# Altium schematic symbol library Embedded - Microcontrollers.SchLib: 219 symbols (part 10 of 15)
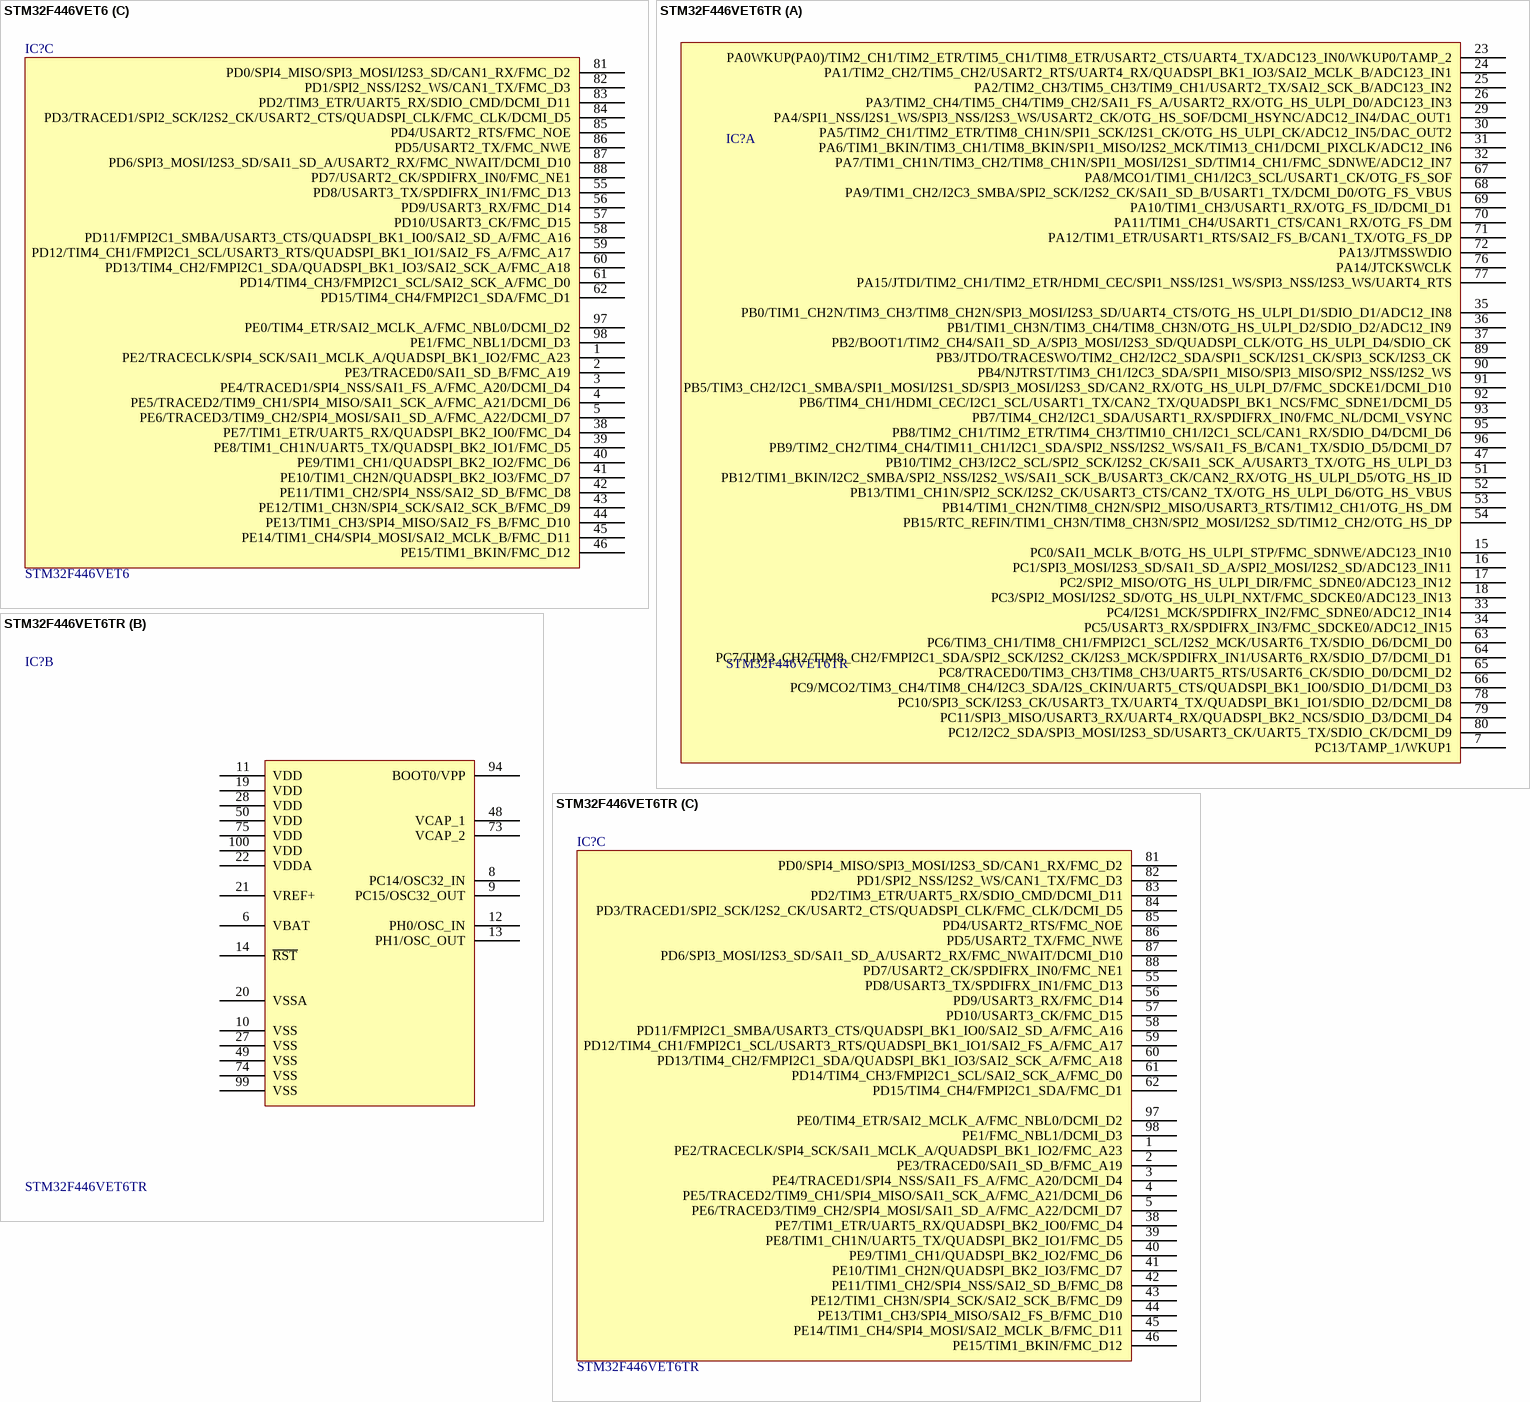
[diagram p110: symbols STM32F446VET6 to STM32F446VET6TR]

## STM32F446VET6TR
designator IC?
IC MCU 32BIT 512KB FLASH 100LQFP; Manufacturer: STMicroelectronics; Connectivity: CANbus, EBI/EMI, I²C, IrDA, LINbus, SAI, SD, SPDIF-Rx, SPI, UART/USART, USB, USB OTG; Core Processor: ARM® Cortex®-M4; Core Size: 32-Bit; Data Converters: A/D 16x12b; D/A 2x12b; Number of I/O: 81; Oscillator Type: Internal; Peripherals: Brown-out Detect/Reset, DMA, I²S, LVD, POR, PWM, WDT; Program Memory Size: 512KB (512K x 8); RAM Size: 128K x 8; Speed: 180MHz; Voltage - Supply (Vcc/Vdd): 1.7V ~ 3.6V; Part Number: STM32F446VET6TR; ComponentLink1Description: Datasheet; ComponentLink1URL: http://www.st.com/content/ccc/resource/technical/document/datasheet/65/cb/75/50/53/d6/48/24/DM00141306.pdf/files/DM00141306.pdf/jcr:content/translations/en.DM00141306.pdf; ComponentLink2Description: DigiKey Link; ComponentLink2URL: //digikey.com/product-detail/en/stmicroelectronics/STM32F446VET6TR/497-19359-2-ND/8257818; Device Package: 100-LQFP; LastUpdated: 12/6/2019 12:44:48 AM; Lifecycle Status: 0; Minimum Order: 1; Mounting Type: Surface Mount; Operating Temperature: -40°C ~ 85°C (TA); Package / Case: 100-LQFP; Packaging: TapeAndReel; PartId: 125; Part Status: Active; Price: 4.65; Program Memory Type: FLASH; Series: STM32F4; Supplier 1: DigiKey; Supplier Part Number 1: 497-19359-2-ND; Supplier Device Package: 100-LQFP (14x14)
footprint ST LQFP-100 14X14MM
part A pins: 7 PC13/TAMP_1/WKUP1, 15 PC0/SAI1_MCLK_B/OTG_HS_ULPI_STP/FMC_SDNWE/ADC123_IN10, 16 PC1/SPI3_MOSI/I2S3_SD/SAI1_SD_A/SPI2_MOSI/I2S2_SD/ADC123_IN11, 17 PC2/SPI2_MISO/OTG_HS_ULPI_DIR/FMC_SDNE0/ADC123_IN12, 18 PC3/SPI2_MOSI/I2S2_SD/OTG_HS_ULPI_NXT/FMC_SDCKE0/ADC123_IN13, 23 PA0WKUP(PA0)/TIM2_CH1/TIM2_ETR/TIM5_CH1/TIM8_ETR/USART2_CTS/UART4_TX/ADC123_IN0/WKUP0/TAMP_2, 24 PA1/TIM2_CH2/TIM5_CH2/USART2_RTS/UART4_RX/QUADSPI_BK1_IO3/SAI2_MCLK_B/ADC123_IN1, 25 PA2/TIM2_CH3/TIM5_CH3/TIM9_CH1/USART2_TX/SAI2_SCK_B/ADC123_IN2, 26 PA3/TIM2_CH4/TIM5_CH4/TIM9_CH2/SAI1_FS_A/USART2_RX/OTG_HS_ULPI_D0/ADC123_IN3, 29 PA4/SPI1_NSS/I2S1_WS/SPI3_NSS/I2S3_WS/USART2_CK/OTG_HS_SOF/DCMI_HSYNC/ADC12_IN4/DAC_OUT1, 30 PA5/TIM2_CH1/TIM2_ETR/TIM8_CH1N/SPI1_SCK/I2S1_CK/OTG_HS_ULPI_CK/ADC12_IN5/DAC_OUT2, 31 PA6/TIM1_BKIN/TIM3_CH1/TIM8_BKIN/SPI1_MISO/I2S2_MCK/TIM13_CH1/DCMI_PIXCLK/ADC12_IN6, 32 PA7/TIM1_CH1N/TIM3_CH2/TIM8_CH1N/SPI1_MOSI/I2S1_SD/TIM14_CH1/FMC_SDNWE/ADC12_IN7, 33 PC4/I2S1_MCK/SPDIFRX_IN2/FMC_SDNE0/ADC12_IN14, 34 PC5/USART3_RX/SPDIFRX_IN3/FMC_SDCKE0/ADC12_IN15, 35 PB0/TIM1_CH2N/TIM3_CH3/TIM8_CH2N/SPI3_MOSI/I2S3_SD/UART4_CTS/OTG_HS_ULPI_D1/SDIO_D1/ADC12_IN8, 36 PB1/TIM1_CH3N/TIM3_CH4/TIM8_CH3N/OTG_HS_ULPI_D2/SDIO_D2/ADC12_IN9, 37 PB2/BOOT1/TIM2_CH4/SAI1_SD_A/SPI3_MOSI/I2S3_SD/QUADSPI_CLK/OTG_HS_ULPI_D4/SDIO_CK, 47 PB10/TIM2_CH3/I2C2_SCL/SPI2_SCK/I2S2_CK/SAI1_SCK_A/USART3_TX/OTG_HS_ULPI_D3, 51 PB12/TIM1_BKIN/I2C2_SMBA/SPI2_NSS/I2S2_WS/SAI1_SCK_B/USART3_CK/CAN2_RX/OTG_HS_ULPI_D5/OTG_HS_ID, 52 PB13/TIM1_CH1N/SPI2_SCK/I2S2_CK/USART3_CTS/CAN2_TX/OTG_HS_ULPI_D6/OTG_HS_VBUS, 53 PB14/TIM1_CH2N/TIM8_CH2N/SPI2_MISO/USART3_RTS/TIM12_CH1/OTG_HS_DM, 54 PB15/RTC_REFIN/TIM1_CH3N/TIM8_CH3N/SPI2_MOSI/I2S2_SD/TIM12_CH2/OTG_HS_DP, 63 PC6/TIM3_CH1/TIM8_CH1/FMPI2C1_SCL/I2S2_MCK/USART6_TX/SDIO_D6/DCMI_D0, 64 PC7/TIM3_CH2/TIM8_CH2/FMPI2C1_SDA/SPI2_SCK/I2S2_CK/I2S3_MCK/SPDIFRX_IN1/USART6_RX/SDIO_D7/DCMI_D1, 65 PC8/TRACED0/TIM3_CH3/TIM8_CH3/UART5_RTS/USART6_CK/SDIO_D0/DCMI_D2, 66 PC9/MCO2/TIM3_CH4/TIM8_CH4/I2C3_SDA/I2S_CKIN/UART5_CTS/QUADSPI_BK1_IO0/SDIO_D1/DCMI_D3, 67 PA8/MCO1/TIM1_CH1/I2C3_SCL/USART1_CK/OTG_FS_SOF, 68 PA9/TIM1_CH2/I2C3_SMBA/SPI2_SCK/I2S2_CK/SAI1_SD_B/USART1_TX/DCMI_D0/OTG_FS_VBUS, 69 PA10/TIM1_CH3/USART1_RX/OTG_FS_ID/DCMI_D1, 70 PA11/TIM1_CH4/USART1_CTS/CAN1_RX/OTG_FS_DM, 71 PA12/TIM1_ETR/USART1_RTS/SAI2_FS_B/CAN1_TX/OTG_FS_DP, 72 PA13/JTMSSWDIO, 76 PA14/JTCKSWCLK, 77 PA15/JTDI/TIM2_CH1/TIM2_ETR/HDMI_CEC/SPI1_NSS/I2S1_WS/SPI3_NSS/I2S3_WS/UART4_RTS, 78 PC10/SPI3_SCK/I2S3_CK/USART3_TX/UART4_TX/QUADSPI_BK1_IO1/SDIO_D2/DCMI_D8, 79 PC11/SPI3_MISO/USART3_RX/UART4_RX/QUADSPI_BK2_NCS/SDIO_D3/DCMI_D4, 80 PC12/I2C2_SDA/SPI3_MOSI/I2S3_SD/USART3_CK/UART5_TX/SDIO_CK/DCMI_D9, 89 PB3/JTDO/TRACESWO/TIM2_CH2/I2C2_SDA/SPI1_SCK/I2S1_CK/SPI3_SCK/I2S3_CK, 90 PB4/NJTRST/TIM3_CH1/I2C3_SDA/SPI1_MISO/SPI3_MISO/SPI2_NSS/I2S2_WS, 91 PB5/TIM3_CH2/I2C1_SMBA/SPI1_MOSI/I2S1_SD/SPI3_MOSI/I2S3_SD/CAN2_RX/OTG_HS_ULPI_D7/FMC_SDCKE1/DCMI_D10, 92 PB6/TIM4_CH1/HDMI_CEC/I2C1_SCL/USART1_TX/CAN2_TX/QUADSPI_BK1_NCS/FMC_SDNE1/DCMI_D5, 93 PB7/TIM4_CH2/I2C1_SDA/USART1_RX/SPDIFRX_IN0/FMC_NL/DCMI_VSYNC, 95 PB8/TIM2_CH1/TIM2_ETR/TIM4_CH3/TIM10_CH1/I2C1_SCL/CAN1_RX/SDIO_D4/DCMI_D6, 96 PB9/TIM2_CH2/TIM4_CH4/TIM11_CH1/I2C1_SDA/SPI2_NSS/I2S2_WS/SAI1_FS_B/CAN1_TX/SDIO_D5/DCMI_D7
part B pins: 6 VBAT, 8 PC14/OSC32_IN, 9 PC15/OSC32_OUT, 10 VSS, 11 VDD, 12 PH0/OSC_IN, 13 PH1/OSC_OUT, 14 ~{RST}, 19 VDD, 20 VSSA, 21 VREF+, 22 VDDA, 27 VSS, 28 VDD, 48 VCAP_1, 49 VSS, 50 VDD, 73 VCAP_2, 74 VSS, 75 VDD, 94 BOOT0/VPP, 99 VSS, 100 VDD
part C pins: 1 PE2/TRACECLK/SPI4_SCK/SAI1_MCLK_A/QUADSPI_BK1_IO2/FMC_A23, 2 PE3/TRACED0/SAI1_SD_B/FMC_A19, 3 PE4/TRACED1/SPI4_NSS/SAI1_FS_A/FMC_A20/DCMI_D4, 4 PE5/TRACED2/TIM9_CH1/SPI4_MISO/SAI1_SCK_A/FMC_A21/DCMI_D6, 5 PE6/TRACED3/TIM9_CH2/SPI4_MOSI/SAI1_SD_A/FMC_A22/DCMI_D7, 38 PE7/TIM1_ETR/UART5_RX/QUADSPI_BK2_IO0/FMC_D4, 39 PE8/TIM1_CH1N/UART5_TX/QUADSPI_BK2_IO1/FMC_D5, 40 PE9/TIM1_CH1/QUADSPI_BK2_IO2/FMC_D6, 41 PE10/TIM1_CH2N/QUADSPI_BK2_IO3/FMC_D7, 42 PE11/TIM1_CH2/SPI4_NSS/SAI2_SD_B/FMC_D8, 43 PE12/TIM1_CH3N/SPI4_SCK/SAI2_SCK_B/FMC_D9, 44 PE13/TIM1_CH3/SPI4_MISO/SAI2_FS_B/FMC_D10, 45 PE14/TIM1_CH4/SPI4_MOSI/SAI2_MCLK_B/FMC_D11, 46 PE15/TIM1_BKIN/FMC_D12, 55 PD8/USART3_TX/SPDIFRX_IN1/FMC_D13, 56 PD9/USART3_RX/FMC_D14, 57 PD10/USART3_CK/FMC_D15, 58 PD11/FMPI2C1_SMBA/USART3_CTS/QUADSPI_BK1_IO0/SAI2_SD_A/FMC_A16, 59 PD12/TIM4_CH1/FMPI2C1_SCL/USART3_RTS/QUADSPI_BK1_IO1/SAI2_FS_A/FMC_A17, 60 PD13/TIM4_CH2/FMPI2C1_SDA/QUADSPI_BK1_IO3/SAI2_SCK_A/FMC_A18, 61 PD14/TIM4_CH3/FMPI2C1_SCL/SAI2_SCK_A/FMC_D0, 62 PD15/TIM4_CH4/FMPI2C1_SDA/FMC_D1, 81 PD0/SPI4_MISO/SPI3_MOSI/I2S3_SD/CAN1_RX/FMC_D2, 82 PD1/SPI2_NSS/I2S2_WS/CAN1_TX/FMC_D3, 83 PD2/TIM3_ETR/UART5_RX/SDIO_CMD/DCMI_D11, 84 PD3/TRACED1/SPI2_SCK/I2S2_CK/USART2_CTS/QUADSPI_CLK/FMC_CLK/DCMI_D5, 85 PD4/USART2_RTS/FMC_NOE, 86 PD5/USART2_TX/FMC_NWE, 87 PD6/SPI3_MOSI/I2S3_SD/SAI1_SD_A/USART2_RX/FMC_NWAIT/DCMI_D10, 88 PD7/USART2_CK/SPDIFRX_IN0/FMC_NE1, 97 PE0/TIM4_ETR/SAI2_MCLK_A/FMC_NBL0/DCMI_D2, 98 PE1/FMC_NBL1/DCMI_D3

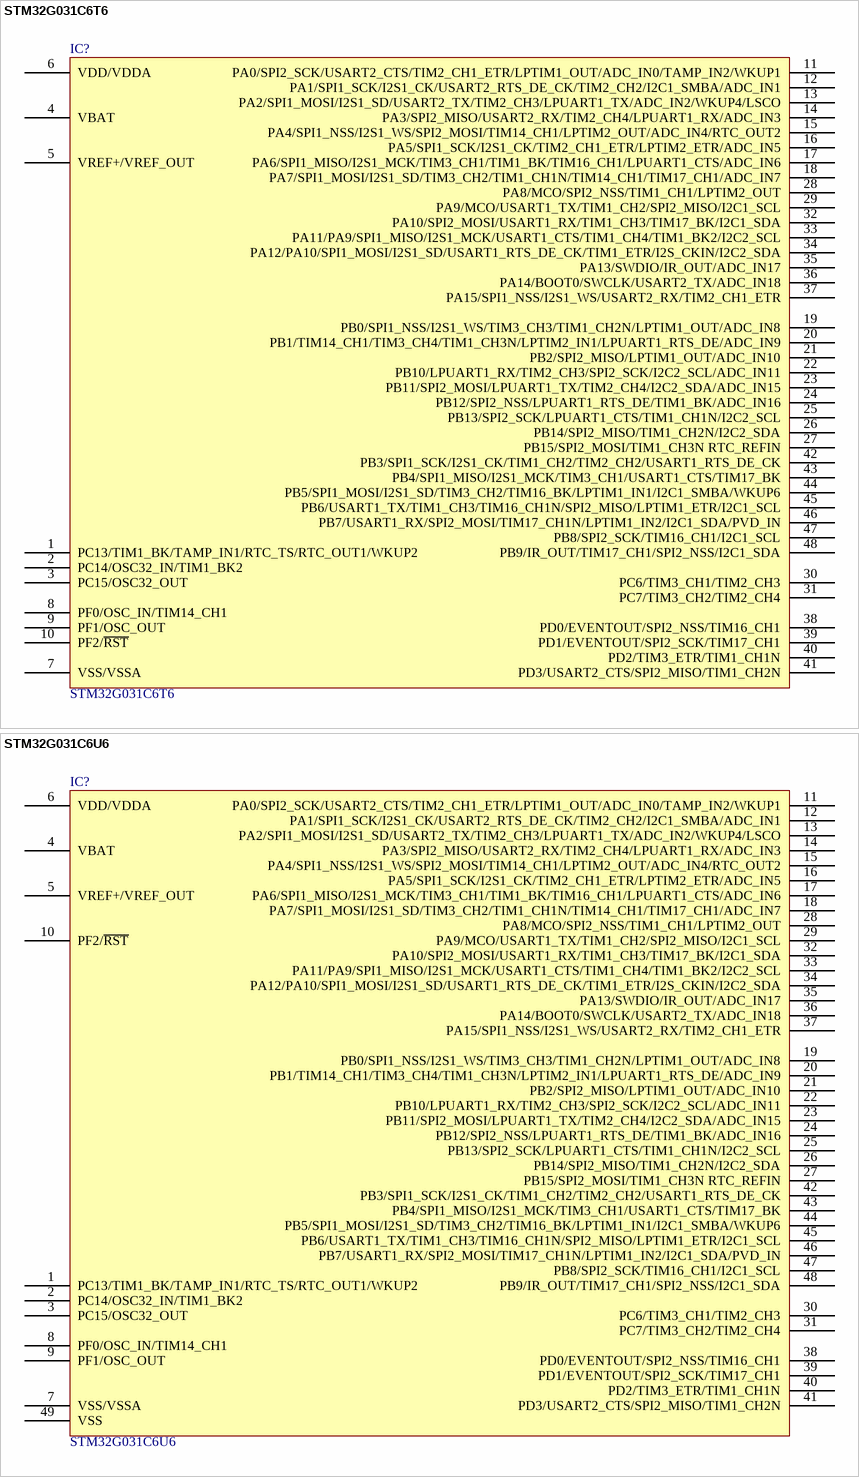
[diagram p66: symbols STM32G031C6T6 to STM32G031C6U6]

## STM32G031C6T6
designator IC?
MAINSTREAM ARM CORTEX-M0+ MCU WI; Manufacturer: STMicroelectronics; Connectivity: I²C, IrDA, LINbus, SPI, UART/USART; Core Processor: ARM® Cortex®-M0+; Core Size: 32-Bit; Data Converters: A/D 19x12b; Number of I/O: 44; Oscillator Type: Internal; Peripherals: Brown-out Detect/Reset, DMA, I²S, POR, PWM, WDT; Program Memory Size: 32KB (32K x 8); Program Memory Type: FLASH; RAM Size: 8K x 8; Speed: 64MHz; Voltage - Supply (Vcc/Vdd): 1.7V ~ 3.6V; Part Number: STM32G031C6T6; ComponentLink1Description: Datasheet; ComponentLink1URL: https://www.st.com/resource/en/datasheet/stm32g031c6.pdf; ComponentLink2Description: DigiKey Link; ComponentLink2URL: http://digikey.com/product-detail/en/stmicroelectronics/STM32G031C6T6/497-19555-ND/10300268; LastUpdated: 9/2/2020 1:30:59 AM; Lifecycle Status: Active; Minimum Order: 1; Mounting Type: Surface Mount; Operating Temperature: -40°C ~ 85°C (TA); Package / Case: 48-LQFP; Packaging: Tray; PartId: 217; Part Status: Active; Price: 2.11; Series: STM32G0; Supplier 1: DigiKey; Supplier Part Number 1: 497-19555-ND; Supplier Device Package: 48-LQFP (7x7)
footprint ST LQFP-48 7X7MM
pins: 1 PC13/TIM1_BK/TAMP_IN1/RTC_TS/RTC_OUT1/WKUP2, 2 PC14/OSC32_IN/TIM1_BK2, 3 PC15/OSC32_OUT, 4 VBAT, 5 VREF+/VREF_OUT, 6 VDD/VDDA, 7 VSS/VSSA, 8 PF0/OSC_IN/TIM14_CH1, 9 PF1/OSC_OUT, 10 PF2/~{RST}, 11 PA0/SPI2_SCK/USART2_CTS/TIM2_CH1_ETR/LPTIM1_OUT/ADC_IN0/TAMP_IN2/WKUP1, 12 PA1/SPI1_SCK/I2S1_CK/USART2_RTS_DE_CK/TIM2_CH2/I2C1_SMBA/ADC_IN1, 13 PA2/SPI1_MOSI/I2S1_SD/USART2_TX/TIM2_CH3/LPUART1_TX/ADC_IN2/WKUP4/LSCO, 14 PA3/SPI2_MISO/USART2_RX/TIM2_CH4/LPUART1_RX/ADC_IN3, 15 PA4/SPI1_NSS/I2S1_WS/SPI2_MOSI/TIM14_CH1/LPTIM2_OUT/ADC_IN4/RTC_OUT2, 16 PA5/SPI1_SCK/I2S1_CK/TIM2_CH1_ETR/LPTIM2_ETR/ADC_IN5, 17 PA6/SPI1_MISO/I2S1_MCK/TIM3_CH1/TIM1_BK/TIM16_CH1/LPUART1_CTS/ADC_IN6, 18 PA7/SPI1_MOSI/I2S1_SD/TIM3_CH2/TIM1_CH1N/TIM14_CH1/TIM17_CH1/ADC_IN7, 19 PB0/SPI1_NSS/I2S1_WS/TIM3_CH3/TIM1_CH2N/LPTIM1_OUT/ADC_IN8, 20 PB1/TIM14_CH1/TIM3_CH4/TIM1_CH3N/LPTIM2_IN1/LPUART1_RTS_DE/ADC_IN9, 21 PB2/SPI2_MISO/LPTIM1_OUT/ADC_IN10, 22 PB10/LPUART1_RX/TIM2_CH3/SPI2_SCK/I2C2_SCL/ADC_IN11, 23 PB11/SPI2_MOSI/LPUART1_TX/TIM2_CH4/I2C2_SDA/ADC_IN15, 24 PB12/SPI2_NSS/LPUART1_RTS_DE/TIM1_BK/ADC_IN16, 25 PB13/SPI2_SCK/LPUART1_CTS/TIM1_CH1N/I2C2_SCL, 26 PB14/SPI2_MISO/TIM1_CH2N/I2C2_SDA, 27 PB15/SPI2_MOSI/TIM1_CH3N RTC_REFIN, 28 PA8/MCO/SPI2_NSS/TIM1_CH1/LPTIM2_OUT, 29 PA9/MCO/USART1_TX/TIM1_CH2/SPI2_MISO/I2C1_SCL, 30 PC6/TIM3_CH1/TIM2_CH3, 31 PC7/TIM3_CH2/TIM2_CH4, 32 PA10/SPI2_MOSI/USART1_RX/TIM1_CH3/TIM17_BK/I2C1_SDA, 33 PA11/PA9/SPI1_MISO/I2S1_MCK/USART1_CTS/TIM1_CH4/TIM1_BK2/I2C2_SCL, 34 PA12/PA10/SPI1_MOSI/I2S1_SD/USART1_RTS_DE_CK/TIM1_ETR/I2S_CKIN/I2C2_SDA, 35 PA13/SWDIO/IR_OUT/ADC_IN17, 36 PA14/BOOT0/SWCLK/USART2_TX/ADC_IN18, 37 PA15/SPI1_NSS/I2S1_WS/USART2_RX/TIM2_CH1_ETR, 38 PD0/EVENTOUT/SPI2_NSS/TIM16_CH1, 39 PD1/EVENTOUT/SPI2_SCK/TIM17_CH1, 40 PD2/TIM3_ETR/TIM1_CH1N, 41 PD3/USART2_CTS/SPI2_MISO/TIM1_CH2N, 42 PB3/SPI1_SCK/I2S1_CK/TIM1_CH2/TIM2_CH2/USART1_RTS_DE_CK, 43 PB4/SPI1_MISO/I2S1_MCK/TIM3_CH1/USART1_CTS/TIM17_BK, 44 PB5/SPI1_MOSI/I2S1_SD/TIM3_CH2/TIM16_BK/LPTIM1_IN1/I2C1_SMBA/WKUP6, 45 PB6/USART1_TX/TIM1_CH3/TIM16_CH1N/SPI2_MISO/LPTIM1_ETR/I2C1_SCL, 46 PB7/USART1_RX/SPI2_MOSI/TIM17_CH1N/LPTIM1_IN2/I2C1_SDA/PVD_IN, 47 PB8/SPI2_SCK/TIM16_CH1/I2C1_SCL, 48 PB9/IR_OUT/TIM17_CH1/SPI2_NSS/I2C1_SDA

## STM32G031C6U6
designator IC?
MAINSTREAM ARM CORTEX-M0+ MCU WI; Manufacturer: STMicroelectronics; Connectivity: I²C, IrDA, LINbus, SPI, UART/USART; Core Processor: ARM® Cortex®-M0+; Core Size: 32-Bit; Data Converters: A/D 19x12b; Number of I/O: 44; Oscillator Type: Internal; Peripherals: Brown-out Detect/Reset, DMA, I²S, POR, PWM, WDT; Program Memory Size: 32KB (32K x 8); Program Memory Type: FLASH; RAM Size: 8K x 8; Speed: 64MHz; Voltage - Supply (Vcc/Vdd): 1.7V ~ 3.6V; Part Number: STM32G031C6U6; ComponentLink1Description: Datasheet; ComponentLink1URL: https://www.st.com/resource/en/datasheet/stm32g031c6.pdf; ComponentLink2Description: DigiKey Link; ComponentLink2URL: http://digikey.com/product-detail/en/stmicroelectronics/STM32G031C6U6/497-19559-ND/10300272; LastUpdated: 9/2/2020 1:30:59 AM; Lifecycle Status: Active; Minimum Order: 1; Mounting Type: Surface Mount; Operating Temperature: -40°C ~ 85°C (TA); Package / Case: 48-UFQFN Exposed Pad; Packaging: Tray; PartId: 215; Part Status: Active; Price: 2.05; Series: STM32G0; Supplier 1: DigiKey; Supplier Part Number 1: 497-19559-ND; Supplier Device Package: 48-UFQFPN (7x7)
footprint ST UFQFPN-48 7x7MM
pins: 1 PC13/TIM1_BK/TAMP_IN1/RTC_TS/RTC_OUT1/WKUP2, 2 PC14/OSC32_IN/TIM1_BK2, 3 PC15/OSC32_OUT, 4 VBAT, 5 VREF+/VREF_OUT, 6 VDD/VDDA, 7 VSS/VSSA, 8 PF0/OSC_IN/TIM14_CH1, 9 PF1/OSC_OUT, 10 PF2/~{RST}, 11 PA0/SPI2_SCK/USART2_CTS/TIM2_CH1_ETR/LPTIM1_OUT/ADC_IN0/TAMP_IN2/WKUP1, 12 PA1/SPI1_SCK/I2S1_CK/USART2_RTS_DE_CK/TIM2_CH2/I2C1_SMBA/ADC_IN1, 13 PA2/SPI1_MOSI/I2S1_SD/USART2_TX/TIM2_CH3/LPUART1_TX/ADC_IN2/WKUP4/LSCO, 14 PA3/SPI2_MISO/USART2_RX/TIM2_CH4/LPUART1_RX/ADC_IN3, 15 PA4/SPI1_NSS/I2S1_WS/SPI2_MOSI/TIM14_CH1/LPTIM2_OUT/ADC_IN4/RTC_OUT2, 16 PA5/SPI1_SCK/I2S1_CK/TIM2_CH1_ETR/LPTIM2_ETR/ADC_IN5, 17 PA6/SPI1_MISO/I2S1_MCK/TIM3_CH1/TIM1_BK/TIM16_CH1/LPUART1_CTS/ADC_IN6, 18 PA7/SPI1_MOSI/I2S1_SD/TIM3_CH2/TIM1_CH1N/TIM14_CH1/TIM17_CH1/ADC_IN7, 19 PB0/SPI1_NSS/I2S1_WS/TIM3_CH3/TIM1_CH2N/LPTIM1_OUT/ADC_IN8, 20 PB1/TIM14_CH1/TIM3_CH4/TIM1_CH3N/LPTIM2_IN1/LPUART1_RTS_DE/ADC_IN9, 21 PB2/SPI2_MISO/LPTIM1_OUT/ADC_IN10, 22 PB10/LPUART1_RX/TIM2_CH3/SPI2_SCK/I2C2_SCL/ADC_IN11, 23 PB11/SPI2_MOSI/LPUART1_TX/TIM2_CH4/I2C2_SDA/ADC_IN15, 24 PB12/SPI2_NSS/LPUART1_RTS_DE/TIM1_BK/ADC_IN16, 25 PB13/SPI2_SCK/LPUART1_CTS/TIM1_CH1N/I2C2_SCL, 26 PB14/SPI2_MISO/TIM1_CH2N/I2C2_SDA, 27 PB15/SPI2_MOSI/TIM1_CH3N RTC_REFIN, 28 PA8/MCO/SPI2_NSS/TIM1_CH1/LPTIM2_OUT, 29 PA9/MCO/USART1_TX/TIM1_CH2/SPI2_MISO/I2C1_SCL, 30 PC6/TIM3_CH1/TIM2_CH3, 31 PC7/TIM3_CH2/TIM2_CH4, 32 PA10/SPI2_MOSI/USART1_RX/TIM1_CH3/TIM17_BK/I2C1_SDA, 33 PA11/PA9/SPI1_MISO/I2S1_MCK/USART1_CTS/TIM1_CH4/TIM1_BK2/I2C2_SCL, 34 PA12/PA10/SPI1_MOSI/I2S1_SD/USART1_RTS_DE_CK/TIM1_ETR/I2S_CKIN/I2C2_SDA, 35 PA13/SWDIO/IR_OUT/ADC_IN17, 36 PA14/BOOT0/SWCLK/USART2_TX/ADC_IN18, 37 PA15/SPI1_NSS/I2S1_WS/USART2_RX/TIM2_CH1_ETR, 38 PD0/EVENTOUT/SPI2_NSS/TIM16_CH1, 39 PD1/EVENTOUT/SPI2_SCK/TIM17_CH1, 40 PD2/TIM3_ETR/TIM1_CH1N, 41 PD3/USART2_CTS/SPI2_MISO/TIM1_CH2N, 42 PB3/SPI1_SCK/I2S1_CK/TIM1_CH2/TIM2_CH2/USART1_RTS_DE_CK, 43 PB4/SPI1_MISO/I2S1_MCK/TIM3_CH1/USART1_CTS/TIM17_BK, 44 PB5/SPI1_MOSI/I2S1_SD/TIM3_CH2/TIM16_BK/LPTIM1_IN1/I2C1_SMBA/WKUP6, 45 PB6/USART1_TX/TIM1_CH3/TIM16_CH1N/SPI2_MISO/LPTIM1_ETR/I2C1_SCL, 46 PB7/USART1_RX/SPI2_MOSI/TIM17_CH1N/LPTIM1_IN2/I2C1_SDA/PVD_IN, 47 PB8/SPI2_SCK/TIM16_CH1/I2C1_SCL, 48 PB9/IR_OUT/TIM17_CH1/SPI2_NSS/I2C1_SDA, 49 VSS

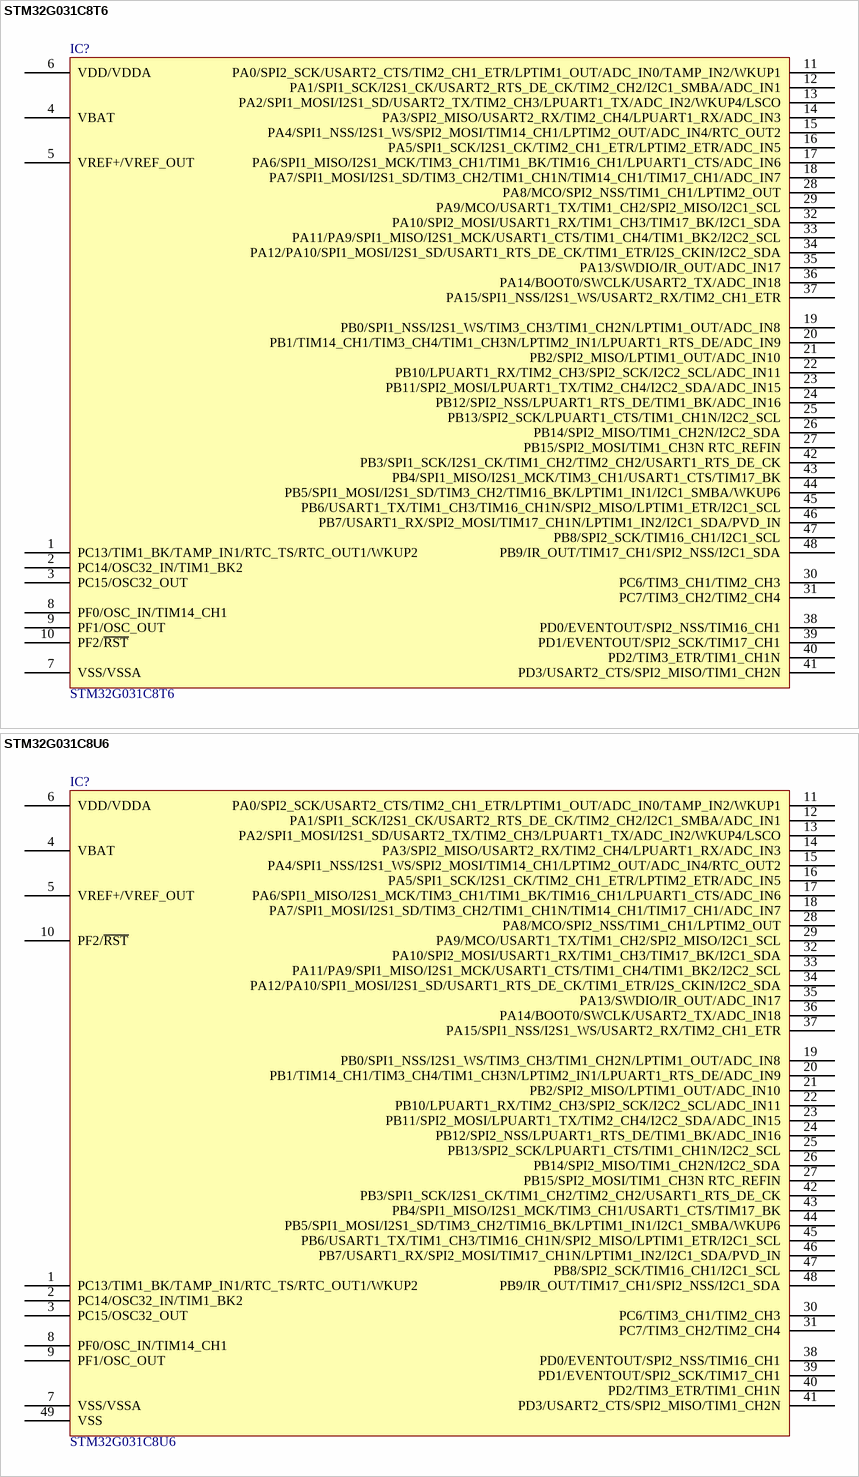
[diagram p67: symbols STM32G031C8T6 to STM32G031C8U6]

## STM32G031C8T6
designator IC?
MAINSTREAM ARM CORTEX-M0+ MCU WI; Manufacturer: STMicroelectronics; Connectivity: I²C, IrDA, LINbus, SPI, UART/USART; Core Processor: ARM® Cortex®-M0+; Core Size: 32-Bit; Data Converters: A/D 19x12b; Number of I/O: 44; Oscillator Type: Internal; Peripherals: Brown-out Detect/Reset, DMA, I²S, POR, PWM, WDT; Program Memory Size: 64KB (64K x 8); Program Memory Type: FLASH; RAM Size: 8K x 8; Speed: 64MHz; Voltage - Supply (Vcc/Vdd): 1.7V ~ 3.6V; Part Number: STM32G031C8T6; ComponentLink1Description: Datasheet; ComponentLink1URL: https://www.st.com/resource/en/datasheet/stm32g031c6.pdf; ComponentLink2Description: DigiKey Link; ComponentLink2URL: http://digikey.com/product-detail/en/stmicroelectronics/STM32G031C8T6/497-19556-ND/10300269; LastUpdated: 9/2/2020 1:30:59 AM; Lifecycle Status: Active; Minimum Order: 1; Mounting Type: Surface Mount; Operating Temperature: -40°C ~ 85°C (TA); Package / Case: 48-LQFP; Packaging: Tray; PartId: 216; Part Status: Active; Price: 2.24; Series: STM32G0; Supplier 1: DigiKey; Supplier Part Number 1: 497-19556-ND; Supplier Device Package: 48-LQFP (7x7)
footprint ST LQFP-48 7X7MM
pins: 1 PC13/TIM1_BK/TAMP_IN1/RTC_TS/RTC_OUT1/WKUP2, 2 PC14/OSC32_IN/TIM1_BK2, 3 PC15/OSC32_OUT, 4 VBAT, 5 VREF+/VREF_OUT, 6 VDD/VDDA, 7 VSS/VSSA, 8 PF0/OSC_IN/TIM14_CH1, 9 PF1/OSC_OUT, 10 PF2/~{RST}, 11 PA0/SPI2_SCK/USART2_CTS/TIM2_CH1_ETR/LPTIM1_OUT/ADC_IN0/TAMP_IN2/WKUP1, 12 PA1/SPI1_SCK/I2S1_CK/USART2_RTS_DE_CK/TIM2_CH2/I2C1_SMBA/ADC_IN1, 13 PA2/SPI1_MOSI/I2S1_SD/USART2_TX/TIM2_CH3/LPUART1_TX/ADC_IN2/WKUP4/LSCO, 14 PA3/SPI2_MISO/USART2_RX/TIM2_CH4/LPUART1_RX/ADC_IN3, 15 PA4/SPI1_NSS/I2S1_WS/SPI2_MOSI/TIM14_CH1/LPTIM2_OUT/ADC_IN4/RTC_OUT2, 16 PA5/SPI1_SCK/I2S1_CK/TIM2_CH1_ETR/LPTIM2_ETR/ADC_IN5, 17 PA6/SPI1_MISO/I2S1_MCK/TIM3_CH1/TIM1_BK/TIM16_CH1/LPUART1_CTS/ADC_IN6, 18 PA7/SPI1_MOSI/I2S1_SD/TIM3_CH2/TIM1_CH1N/TIM14_CH1/TIM17_CH1/ADC_IN7, 19 PB0/SPI1_NSS/I2S1_WS/TIM3_CH3/TIM1_CH2N/LPTIM1_OUT/ADC_IN8, 20 PB1/TIM14_CH1/TIM3_CH4/TIM1_CH3N/LPTIM2_IN1/LPUART1_RTS_DE/ADC_IN9, 21 PB2/SPI2_MISO/LPTIM1_OUT/ADC_IN10, 22 PB10/LPUART1_RX/TIM2_CH3/SPI2_SCK/I2C2_SCL/ADC_IN11, 23 PB11/SPI2_MOSI/LPUART1_TX/TIM2_CH4/I2C2_SDA/ADC_IN15, 24 PB12/SPI2_NSS/LPUART1_RTS_DE/TIM1_BK/ADC_IN16, 25 PB13/SPI2_SCK/LPUART1_CTS/TIM1_CH1N/I2C2_SCL, 26 PB14/SPI2_MISO/TIM1_CH2N/I2C2_SDA, 27 PB15/SPI2_MOSI/TIM1_CH3N RTC_REFIN, 28 PA8/MCO/SPI2_NSS/TIM1_CH1/LPTIM2_OUT, 29 PA9/MCO/USART1_TX/TIM1_CH2/SPI2_MISO/I2C1_SCL, 30 PC6/TIM3_CH1/TIM2_CH3, 31 PC7/TIM3_CH2/TIM2_CH4, 32 PA10/SPI2_MOSI/USART1_RX/TIM1_CH3/TIM17_BK/I2C1_SDA, 33 PA11/PA9/SPI1_MISO/I2S1_MCK/USART1_CTS/TIM1_CH4/TIM1_BK2/I2C2_SCL, 34 PA12/PA10/SPI1_MOSI/I2S1_SD/USART1_RTS_DE_CK/TIM1_ETR/I2S_CKIN/I2C2_SDA, 35 PA13/SWDIO/IR_OUT/ADC_IN17, 36 PA14/BOOT0/SWCLK/USART2_TX/ADC_IN18, 37 PA15/SPI1_NSS/I2S1_WS/USART2_RX/TIM2_CH1_ETR, 38 PD0/EVENTOUT/SPI2_NSS/TIM16_CH1, 39 PD1/EVENTOUT/SPI2_SCK/TIM17_CH1, 40 PD2/TIM3_ETR/TIM1_CH1N, 41 PD3/USART2_CTS/SPI2_MISO/TIM1_CH2N, 42 PB3/SPI1_SCK/I2S1_CK/TIM1_CH2/TIM2_CH2/USART1_RTS_DE_CK, 43 PB4/SPI1_MISO/I2S1_MCK/TIM3_CH1/USART1_CTS/TIM17_BK, 44 PB5/SPI1_MOSI/I2S1_SD/TIM3_CH2/TIM16_BK/LPTIM1_IN1/I2C1_SMBA/WKUP6, 45 PB6/USART1_TX/TIM1_CH3/TIM16_CH1N/SPI2_MISO/LPTIM1_ETR/I2C1_SCL, 46 PB7/USART1_RX/SPI2_MOSI/TIM17_CH1N/LPTIM1_IN2/I2C1_SDA/PVD_IN, 47 PB8/SPI2_SCK/TIM16_CH1/I2C1_SCL, 48 PB9/IR_OUT/TIM17_CH1/SPI2_NSS/I2C1_SDA

## STM32G031C8U6
designator IC?
MAINSTREAM ARM CORTEX-M0+ MCU WI; Manufacturer: STMicroelectronics; Connectivity: I²C, IrDA, LINbus, SPI, UART/USART; Core Processor: ARM® Cortex®-M0+; Core Size: 32-Bit; Data Converters: A/D 19x12b; Number of I/O: 44; Oscillator Type: Internal; Peripherals: Brown-out Detect/Reset, DMA, I²S, POR, PWM, WDT; Program Memory Size: 64KB (64K x 8); Program Memory Type: FLASH; RAM Size: 8K x 8; Speed: 64MHz; Voltage - Supply (Vcc/Vdd): 1.7V ~ 3.6V; Part Number: STM32G031C8U6; ComponentLink1Description: Datasheet; ComponentLink1URL: https://www.st.com/resource/en/datasheet/stm32g031c6.pdf; ComponentLink2Description: DigiKey Link; ComponentLink2URL: http://digikey.com/product-detail/en/stmicroelectronics/STM32G031C8U6/497-19560-ND/10300273; LastUpdated: 9/2/2020 1:30:59 AM; Lifecycle Status: Active; Minimum Order: 1; Mounting Type: Surface Mount; Operating Temperature: -40°C ~ 85°C (TA); Package / Case: 48-UFQFN Exposed Pad; Packaging: Tray; PartId: 214; Part Status: Active; Price: 2.17; Series: STM32G0; Supplier 1: DigiKey; Supplier Part Number 1: 497-19560-ND; Supplier Device Package: 48-UFQFPN (7x7)
footprint ST UFQFPN-48 7x7MM
pins: 1 PC13/TIM1_BK/TAMP_IN1/RTC_TS/RTC_OUT1/WKUP2, 2 PC14/OSC32_IN/TIM1_BK2, 3 PC15/OSC32_OUT, 4 VBAT, 5 VREF+/VREF_OUT, 6 VDD/VDDA, 7 VSS/VSSA, 8 PF0/OSC_IN/TIM14_CH1, 9 PF1/OSC_OUT, 10 PF2/~{RST}, 11 PA0/SPI2_SCK/USART2_CTS/TIM2_CH1_ETR/LPTIM1_OUT/ADC_IN0/TAMP_IN2/WKUP1, 12 PA1/SPI1_SCK/I2S1_CK/USART2_RTS_DE_CK/TIM2_CH2/I2C1_SMBA/ADC_IN1, 13 PA2/SPI1_MOSI/I2S1_SD/USART2_TX/TIM2_CH3/LPUART1_TX/ADC_IN2/WKUP4/LSCO, 14 PA3/SPI2_MISO/USART2_RX/TIM2_CH4/LPUART1_RX/ADC_IN3, 15 PA4/SPI1_NSS/I2S1_WS/SPI2_MOSI/TIM14_CH1/LPTIM2_OUT/ADC_IN4/RTC_OUT2, 16 PA5/SPI1_SCK/I2S1_CK/TIM2_CH1_ETR/LPTIM2_ETR/ADC_IN5, 17 PA6/SPI1_MISO/I2S1_MCK/TIM3_CH1/TIM1_BK/TIM16_CH1/LPUART1_CTS/ADC_IN6, 18 PA7/SPI1_MOSI/I2S1_SD/TIM3_CH2/TIM1_CH1N/TIM14_CH1/TIM17_CH1/ADC_IN7, 19 PB0/SPI1_NSS/I2S1_WS/TIM3_CH3/TIM1_CH2N/LPTIM1_OUT/ADC_IN8, 20 PB1/TIM14_CH1/TIM3_CH4/TIM1_CH3N/LPTIM2_IN1/LPUART1_RTS_DE/ADC_IN9, 21 PB2/SPI2_MISO/LPTIM1_OUT/ADC_IN10, 22 PB10/LPUART1_RX/TIM2_CH3/SPI2_SCK/I2C2_SCL/ADC_IN11, 23 PB11/SPI2_MOSI/LPUART1_TX/TIM2_CH4/I2C2_SDA/ADC_IN15, 24 PB12/SPI2_NSS/LPUART1_RTS_DE/TIM1_BK/ADC_IN16, 25 PB13/SPI2_SCK/LPUART1_CTS/TIM1_CH1N/I2C2_SCL, 26 PB14/SPI2_MISO/TIM1_CH2N/I2C2_SDA, 27 PB15/SPI2_MOSI/TIM1_CH3N RTC_REFIN, 28 PA8/MCO/SPI2_NSS/TIM1_CH1/LPTIM2_OUT, 29 PA9/MCO/USART1_TX/TIM1_CH2/SPI2_MISO/I2C1_SCL, 30 PC6/TIM3_CH1/TIM2_CH3, 31 PC7/TIM3_CH2/TIM2_CH4, 32 PA10/SPI2_MOSI/USART1_RX/TIM1_CH3/TIM17_BK/I2C1_SDA, 33 PA11/PA9/SPI1_MISO/I2S1_MCK/USART1_CTS/TIM1_CH4/TIM1_BK2/I2C2_SCL, 34 PA12/PA10/SPI1_MOSI/I2S1_SD/USART1_RTS_DE_CK/TIM1_ETR/I2S_CKIN/I2C2_SDA, 35 PA13/SWDIO/IR_OUT/ADC_IN17, 36 PA14/BOOT0/SWCLK/USART2_TX/ADC_IN18, 37 PA15/SPI1_NSS/I2S1_WS/USART2_RX/TIM2_CH1_ETR, 38 PD0/EVENTOUT/SPI2_NSS/TIM16_CH1, 39 PD1/EVENTOUT/SPI2_SCK/TIM17_CH1, 40 PD2/TIM3_ETR/TIM1_CH1N, 41 PD3/USART2_CTS/SPI2_MISO/TIM1_CH2N, 42 PB3/SPI1_SCK/I2S1_CK/TIM1_CH2/TIM2_CH2/USART1_RTS_DE_CK, 43 PB4/SPI1_MISO/I2S1_MCK/TIM3_CH1/USART1_CTS/TIM17_BK, 44 PB5/SPI1_MOSI/I2S1_SD/TIM3_CH2/TIM16_BK/LPTIM1_IN1/I2C1_SMBA/WKUP6, 45 PB6/USART1_TX/TIM1_CH3/TIM16_CH1N/SPI2_MISO/LPTIM1_ETR/I2C1_SCL, 46 PB7/USART1_RX/SPI2_MOSI/TIM17_CH1N/LPTIM1_IN2/I2C1_SDA/PVD_IN, 47 PB8/SPI2_SCK/TIM16_CH1/I2C1_SCL, 48 PB9/IR_OUT/TIM17_CH1/SPI2_NSS/I2C1_SDA, 49 VSS

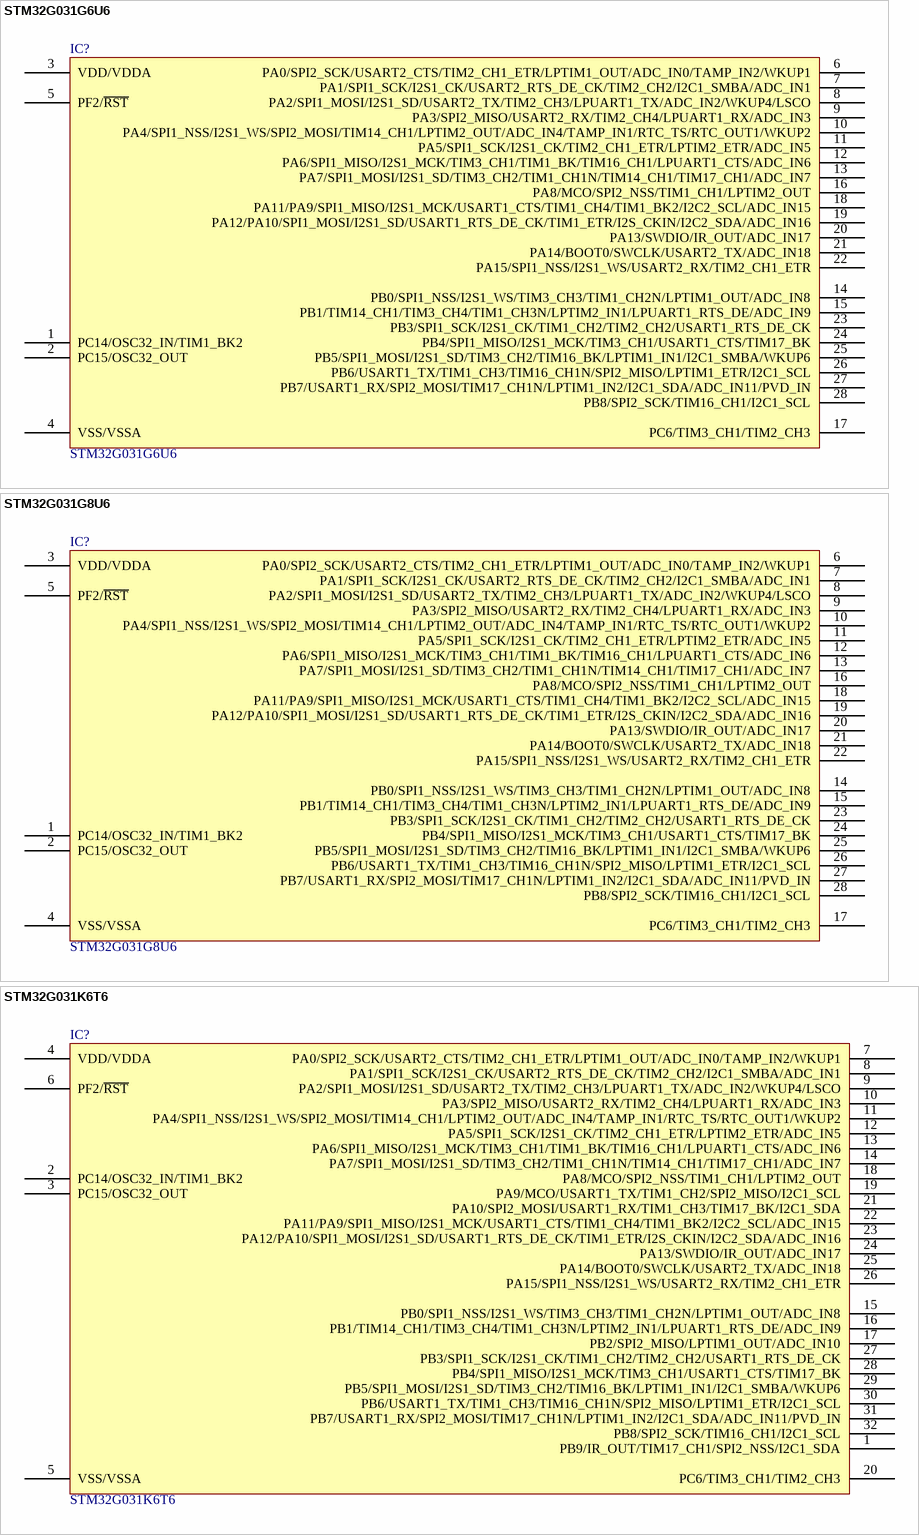
[diagram p68: symbols STM32G031G6U6 to STM32G031K6T6]

## STM32G031G6U6
designator IC?
MAINSTREAM ARM CORTEX-M0+ MCU WI; Manufacturer: STMicroelectronics; Connectivity: I²C, IrDA, LINbus, SPI, UART/USART; Core Processor: ARM® Cortex®-M0+; Core Size: 32-Bit; Data Converters: A/D 17x12b; Number of I/O: 26; Oscillator Type: Internal; Peripherals: Brown-out Detect/Reset, DMA, I²S, POR, PWM, WDT; Program Memory Size: 32KB (32K x 8); Program Memory Type: FLASH; RAM Size: 8K x 8; Speed: 64MHz; Voltage - Supply (Vcc/Vdd): 1.7V ~ 3.6V; Part Number: STM32G031G6U6; ComponentLink1Description: Datasheet; ComponentLink1URL: https://www.st.com/resource/en/datasheet/stm32g031c6.pdf; ComponentLink2Description: DigiKey Link; ComponentLink2URL: http://digikey.com/product-detail/en/stmicroelectronics/STM32G031G6U6/497-19561-ND/10300274; Device Package: 28-UFQFN; LastUpdated: 4/20/2020 3:35:44 PM; Lifecycle Status: Active; Minimum Order: 1; Mounting Type: Surface Mount; Operating Temperature: -40°C ~ 85°C (TA); Package / Case: 28-UFQFN; Packaging: Tray; PartId: 203; Part Status: Active; Price: 1.77; Series: STM32G0; Supplier 1: DigiKey; Supplier Part Number 1: 497-19561-ND; Supplier Device Package: 28-UFQFPN (4x4)
footprint ST UFQFPN28 4x4MM
pins: 1 PC14/OSC32_IN/TIM1_BK2, 2 PC15/OSC32_OUT, 3 VDD/VDDA, 4 VSS/VSSA, 5 PF2/~{RST}, 6 PA0/SPI2_SCK/USART2_CTS/TIM2_CH1_ETR/LPTIM1_OUT/ADC_IN0/TAMP_IN2/WKUP1, 7 PA1/SPI1_SCK/I2S1_CK/USART2_RTS_DE_CK/TIM2_CH2/I2C1_SMBA/ADC_IN1, 8 PA2/SPI1_MOSI/I2S1_SD/USART2_TX/TIM2_CH3/LPUART1_TX/ADC_IN2/WKUP4/LSCO, 9 PA3/SPI2_MISO/USART2_RX/TIM2_CH4/LPUART1_RX/ADC_IN3, 10 PA4/SPI1_NSS/I2S1_WS/SPI2_MOSI/TIM14_CH1/LPTIM2_OUT/ADC_IN4/TAMP_IN1/RTC_TS/RTC_OUT1/WKUP2, 11 PA5/SPI1_SCK/I2S1_CK/TIM2_CH1_ETR/LPTIM2_ETR/ADC_IN5, 12 PA6/SPI1_MISO/I2S1_MCK/TIM3_CH1/TIM1_BK/TIM16_CH1/LPUART1_CTS/ADC_IN6, 13 PA7/SPI1_MOSI/I2S1_SD/TIM3_CH2/TIM1_CH1N/TIM14_CH1/TIM17_CH1/ADC_IN7, 14 PB0/SPI1_NSS/I2S1_WS/TIM3_CH3/TIM1_CH2N/LPTIM1_OUT/ADC_IN8, 15 PB1/TIM14_CH1/TIM3_CH4/TIM1_CH3N/LPTIM2_IN1/LPUART1_RTS_DE/ADC_IN9, 16 PA8/MCO/SPI2_NSS/TIM1_CH1/LPTIM2_OUT, 17 PC6/TIM3_CH1/TIM2_CH3, 18 PA11/PA9/SPI1_MISO/I2S1_MCK/USART1_CTS/TIM1_CH4/TIM1_BK2/I2C2_SCL/ADC_IN15, 19 PA12/PA10/SPI1_MOSI/I2S1_SD/USART1_RTS_DE_CK/TIM1_ETR/I2S_CKIN/I2C2_SDA/ADC_IN16, 20 PA13/SWDIO/IR_OUT/ADC_IN17, 21 PA14/BOOT0/SWCLK/USART2_TX/ADC_IN18, 22 PA15/SPI1_NSS/I2S1_WS/USART2_RX/TIM2_CH1_ETR, 23 PB3/SPI1_SCK/I2S1_CK/TIM1_CH2/TIM2_CH2/USART1_RTS_DE_CK, 24 PB4/SPI1_MISO/I2S1_MCK/TIM3_CH1/USART1_CTS/TIM17_BK, 25 PB5/SPI1_MOSI/I2S1_SD/TIM3_CH2/TIM16_BK/LPTIM1_IN1/I2C1_SMBA/WKUP6, 26 PB6/USART1_TX/TIM1_CH3/TIM16_CH1N/SPI2_MISO/LPTIM1_ETR/I2C1_SCL, 27 PB7/USART1_RX/SPI2_MOSI/TIM17_CH1N/LPTIM1_IN2/I2C1_SDA/ADC_IN11/PVD_IN, 28 PB8/SPI2_SCK/TIM16_CH1/I2C1_SCL

## STM32G031G8U6
designator IC?
MAINSTREAM ARM CORTEX-M0+ MCU WI; Manufacturer: STMicroelectronics; Connectivity: I²C, IrDA, LINbus, SPI, UART/USART; Core Processor: ARM® Cortex®-M0+; Core Size: 32-Bit; Data Converters: A/D 17x12b; Number of I/O: 26; Oscillator Type: Internal; Peripherals: Brown-out Detect/Reset, DMA, I²S, POR, PWM, WDT; Program Memory Size: 64KB (64K x 8); Program Memory Type: FLASH; RAM Size: 8K x 8; Speed: 64MHz; Voltage - Supply (Vcc/Vdd): 1.7V ~ 3.6V; Part Number: STM32G031G8U6; ComponentLink1Description: Datasheet; ComponentLink1URL: https://www.st.com/resource/en/datasheet/stm32g031c6.pdf; ComponentLink2Description: DigiKey Link; ComponentLink2URL: http://digikey.com/product-detail/en/stmicroelectronics/STM32G031G8U6/497-19562-ND/10300275; Device Package: 28-UFQFN; LastUpdated: 4/20/2020 3:35:33 PM; Lifecycle Status: Active; Minimum Order: 1; Mounting Type: Surface Mount; Operating Temperature: -40°C ~ 85°C (TA); Package / Case: 28-UFQFN; Packaging: Tray; PartId: 202; Part Status: Active; Price: 1.88; Series: STM32G0; Supplier 1: DigiKey; Supplier Part Number 1: 497-19562-ND; Supplier Device Package: 28-UFQFPN (4x4)
footprint ST UFQFPN28 4x4MM
pins: 1 PC14/OSC32_IN/TIM1_BK2, 2 PC15/OSC32_OUT, 3 VDD/VDDA, 4 VSS/VSSA, 5 PF2/~{RST}, 6 PA0/SPI2_SCK/USART2_CTS/TIM2_CH1_ETR/LPTIM1_OUT/ADC_IN0/TAMP_IN2/WKUP1, 7 PA1/SPI1_SCK/I2S1_CK/USART2_RTS_DE_CK/TIM2_CH2/I2C1_SMBA/ADC_IN1, 8 PA2/SPI1_MOSI/I2S1_SD/USART2_TX/TIM2_CH3/LPUART1_TX/ADC_IN2/WKUP4/LSCO, 9 PA3/SPI2_MISO/USART2_RX/TIM2_CH4/LPUART1_RX/ADC_IN3, 10 PA4/SPI1_NSS/I2S1_WS/SPI2_MOSI/TIM14_CH1/LPTIM2_OUT/ADC_IN4/TAMP_IN1/RTC_TS/RTC_OUT1/WKUP2, 11 PA5/SPI1_SCK/I2S1_CK/TIM2_CH1_ETR/LPTIM2_ETR/ADC_IN5, 12 PA6/SPI1_MISO/I2S1_MCK/TIM3_CH1/TIM1_BK/TIM16_CH1/LPUART1_CTS/ADC_IN6, 13 PA7/SPI1_MOSI/I2S1_SD/TIM3_CH2/TIM1_CH1N/TIM14_CH1/TIM17_CH1/ADC_IN7, 14 PB0/SPI1_NSS/I2S1_WS/TIM3_CH3/TIM1_CH2N/LPTIM1_OUT/ADC_IN8, 15 PB1/TIM14_CH1/TIM3_CH4/TIM1_CH3N/LPTIM2_IN1/LPUART1_RTS_DE/ADC_IN9, 16 PA8/MCO/SPI2_NSS/TIM1_CH1/LPTIM2_OUT, 17 PC6/TIM3_CH1/TIM2_CH3, 18 PA11/PA9/SPI1_MISO/I2S1_MCK/USART1_CTS/TIM1_CH4/TIM1_BK2/I2C2_SCL/ADC_IN15, 19 PA12/PA10/SPI1_MOSI/I2S1_SD/USART1_RTS_DE_CK/TIM1_ETR/I2S_CKIN/I2C2_SDA/ADC_IN16, 20 PA13/SWDIO/IR_OUT/ADC_IN17, 21 PA14/BOOT0/SWCLK/USART2_TX/ADC_IN18, 22 PA15/SPI1_NSS/I2S1_WS/USART2_RX/TIM2_CH1_ETR, 23 PB3/SPI1_SCK/I2S1_CK/TIM1_CH2/TIM2_CH2/USART1_RTS_DE_CK, 24 PB4/SPI1_MISO/I2S1_MCK/TIM3_CH1/USART1_CTS/TIM17_BK, 25 PB5/SPI1_MOSI/I2S1_SD/TIM3_CH2/TIM16_BK/LPTIM1_IN1/I2C1_SMBA/WKUP6, 26 PB6/USART1_TX/TIM1_CH3/TIM16_CH1N/SPI2_MISO/LPTIM1_ETR/I2C1_SCL, 27 PB7/USART1_RX/SPI2_MOSI/TIM17_CH1N/LPTIM1_IN2/I2C1_SDA/ADC_IN11/PVD_IN, 28 PB8/SPI2_SCK/TIM16_CH1/I2C1_SCL

## STM32G031K6T6
designator IC?
MAINSTREAM ARM CORTEX-M0+ MCU WI; Manufacturer: STMicroelectronics; Connectivity: I²C, IrDA, LINbus, SPI, UART/USART; Core Processor: ARM® Cortex®-M0+; Core Size: 32-Bit; Data Converters: A/D 18x12b; Number of I/O: 30; Oscillator Type: Internal; Peripherals: Brown-out Detect/Reset, DMA, I²S, POR, PWM, WDT; Program Memory Size: 32KB (32K x 8); Program Memory Type: FLASH; RAM Size: 8K x 8; Speed: 64MHz; Voltage - Supply (Vcc/Vdd): 1.7V ~ 3.6V; Part Number: STM32G031K6T6; ComponentLink1Description: Datasheet; ComponentLink1URL: https://www.st.com/resource/en/datasheet/stm32g031c6.pdf; ComponentLink2Description: DigiKey Link; ComponentLink2URL: http://digikey.com/product-detail/en/stmicroelectronics/STM32G031K6T6/497-19553-ND/10300266; Device Package: 32-LQFP; LastUpdated: 4/20/2020 1:34:51 PM; Lifecycle Status: Active; Minimum Order: 1; Mounting Type: Surface Mount; Operating Temperature: -40°C ~ 85°C (TA); Package / Case: 32-LQFP; Packaging: Tray; PartId: 198; Part Status: Active; Price: 1.86; Series: STM32G0; Supplier 1: DigiKey; Supplier Part Number 1: 497-19553-ND; Supplier Device Package: 32-LQFP (7x7)
footprint ST LQFP-32 7X7MM
pins: 1 PB9/IR_OUT/TIM17_CH1/SPI2_NSS/I2C1_SDA, 2 PC14/OSC32_IN/TIM1_BK2, 3 PC15/OSC32_OUT, 4 VDD/VDDA, 5 VSS/VSSA, 6 PF2/~{RST}, 7 PA0/SPI2_SCK/USART2_CTS/TIM2_CH1_ETR/LPTIM1_OUT/ADC_IN0/TAMP_IN2/WKUP1, 8 PA1/SPI1_SCK/I2S1_CK/USART2_RTS_DE_CK/TIM2_CH2/I2C1_SMBA/ADC_IN1, 9 PA2/SPI1_MOSI/I2S1_SD/USART2_TX/TIM2_CH3/LPUART1_TX/ADC_IN2/WKUP4/LSCO, 10 PA3/SPI2_MISO/USART2_RX/TIM2_CH4/LPUART1_RX/ADC_IN3, 11 PA4/SPI1_NSS/I2S1_WS/SPI2_MOSI/TIM14_CH1/LPTIM2_OUT/ADC_IN4/TAMP_IN1/RTC_TS/RTC_OUT1/WKUP2, 12 PA5/SPI1_SCK/I2S1_CK/TIM2_CH1_ETR/LPTIM2_ETR/ADC_IN5, 13 PA6/SPI1_MISO/I2S1_MCK/TIM3_CH1/TIM1_BK/TIM16_CH1/LPUART1_CTS/ADC_IN6, 14 PA7/SPI1_MOSI/I2S1_SD/TIM3_CH2/TIM1_CH1N/TIM14_CH1/TIM17_CH1/ADC_IN7, 15 PB0/SPI1_NSS/I2S1_WS/TIM3_CH3/TIM1_CH2N/LPTIM1_OUT/ADC_IN8, 16 PB1/TIM14_CH1/TIM3_CH4/TIM1_CH3N/LPTIM2_IN1/LPUART1_RTS_DE/ADC_IN9, 17 PB2/SPI2_MISO/LPTIM1_OUT/ADC_IN10, 18 PA8/MCO/SPI2_NSS/TIM1_CH1/LPTIM2_OUT, 19 PA9/MCO/USART1_TX/TIM1_CH2/SPI2_MISO/I2C1_SCL, 20 PC6/TIM3_CH1/TIM2_CH3, 21 PA10/SPI2_MOSI/USART1_RX/TIM1_CH3/TIM17_BK/I2C1_SDA, 22 PA11/PA9/SPI1_MISO/I2S1_MCK/USART1_CTS/TIM1_CH4/TIM1_BK2/I2C2_SCL/ADC_IN15, 23 PA12/PA10/SPI1_MOSI/I2S1_SD/USART1_RTS_DE_CK/TIM1_ETR/I2S_CKIN/I2C2_SDA/ADC_IN16, 24 PA13/SWDIO/IR_OUT/ADC_IN17, 25 PA14/BOOT0/SWCLK/USART2_TX/ADC_IN18, 26 PA15/SPI1_NSS/I2S1_WS/USART2_RX/TIM2_CH1_ETR, 27 PB3/SPI1_SCK/I2S1_CK/TIM1_CH2/TIM2_CH2/USART1_RTS_DE_CK, 28 PB4/SPI1_MISO/I2S1_MCK/TIM3_CH1/USART1_CTS/TIM17_BK, 29 PB5/SPI1_MOSI/I2S1_SD/TIM3_CH2/TIM16_BK/LPTIM1_IN1/I2C1_SMBA/WKUP6, 30 PB6/USART1_TX/TIM1_CH3/TIM16_CH1N/SPI2_MISO/LPTIM1_ETR/I2C1_SCL, 31 PB7/USART1_RX/SPI2_MOSI/TIM17_CH1N/LPTIM1_IN2/I2C1_SDA/ADC_IN11/PVD_IN, 32 PB8/SPI2_SCK/TIM16_CH1/I2C1_SCL

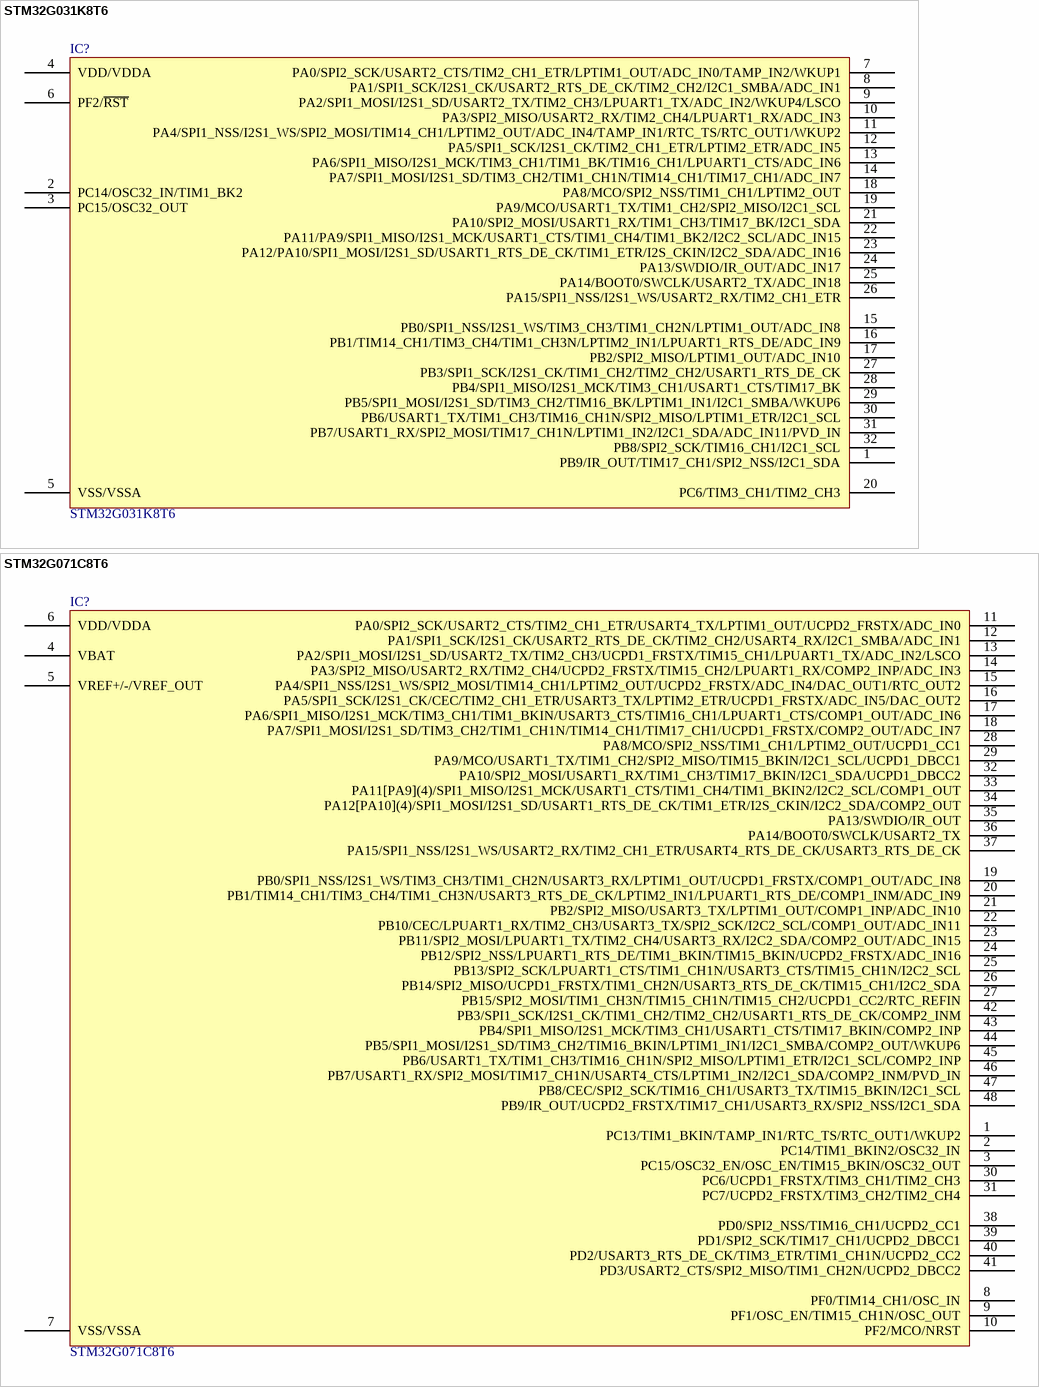
[diagram p69: symbols STM32G031K8T6 to STM32G071C8T6]

## STM32G031K8T6
designator IC?
MAINSTREAM ARM CORTEX-M0+ MCU WI; Manufacturer: STMicroelectronics; Connectivity: I²C, IrDA, LINbus, SPI, UART/USART; Core Processor: ARM® Cortex®-M0+; Core Size: 32-Bit; Data Converters: A/D 18x12b; Number of I/O: 30; Oscillator Type: Internal; Peripherals: Brown-out Detect/Reset, DMA, I²S, POR, PWM, WDT; Program Memory Size: 64KB (64K x 8); Program Memory Type: FLASH; RAM Size: 8K x 8; Speed: 64MHz; Voltage - Supply (Vcc/Vdd): 1.7V ~ 3.6V; Part Number: STM32G031K8T6; ComponentLink1Description: Datasheet; ComponentLink1URL: https://www.st.com/resource/en/datasheet/stm32g031c6.pdf; ComponentLink2Description: DigiKey Link; ComponentLink2URL: http://digikey.com/product-detail/en/stmicroelectronics/STM32G031K8T6/497-19554-ND/10300267; Device Package: 32-LQFP; LastUpdated: 4/20/2020 1:36:37 PM; Lifecycle Status: Active; Minimum Order: 1; Mounting Type: Surface Mount; Operating Temperature: -40°C ~ 85°C (TA); Package / Case: 32-LQFP; Packaging: Tray; PartId: 199; Part Status: Active; Price: 1.97; Series: STM32G0; Supplier 1: DigiKey; Supplier Part Number 1: 497-19554-ND; Supplier Device Package: 32-LQFP (7x7)
footprint ST LQFP-32 7X7MM
pins: 1 PB9/IR_OUT/TIM17_CH1/SPI2_NSS/I2C1_SDA, 2 PC14/OSC32_IN/TIM1_BK2, 3 PC15/OSC32_OUT, 4 VDD/VDDA, 5 VSS/VSSA, 6 PF2/~{RST}, 7 PA0/SPI2_SCK/USART2_CTS/TIM2_CH1_ETR/LPTIM1_OUT/ADC_IN0/TAMP_IN2/WKUP1, 8 PA1/SPI1_SCK/I2S1_CK/USART2_RTS_DE_CK/TIM2_CH2/I2C1_SMBA/ADC_IN1, 9 PA2/SPI1_MOSI/I2S1_SD/USART2_TX/TIM2_CH3/LPUART1_TX/ADC_IN2/WKUP4/LSCO, 10 PA3/SPI2_MISO/USART2_RX/TIM2_CH4/LPUART1_RX/ADC_IN3, 11 PA4/SPI1_NSS/I2S1_WS/SPI2_MOSI/TIM14_CH1/LPTIM2_OUT/ADC_IN4/TAMP_IN1/RTC_TS/RTC_OUT1/WKUP2, 12 PA5/SPI1_SCK/I2S1_CK/TIM2_CH1_ETR/LPTIM2_ETR/ADC_IN5, 13 PA6/SPI1_MISO/I2S1_MCK/TIM3_CH1/TIM1_BK/TIM16_CH1/LPUART1_CTS/ADC_IN6, 14 PA7/SPI1_MOSI/I2S1_SD/TIM3_CH2/TIM1_CH1N/TIM14_CH1/TIM17_CH1/ADC_IN7, 15 PB0/SPI1_NSS/I2S1_WS/TIM3_CH3/TIM1_CH2N/LPTIM1_OUT/ADC_IN8, 16 PB1/TIM14_CH1/TIM3_CH4/TIM1_CH3N/LPTIM2_IN1/LPUART1_RTS_DE/ADC_IN9, 17 PB2/SPI2_MISO/LPTIM1_OUT/ADC_IN10, 18 PA8/MCO/SPI2_NSS/TIM1_CH1/LPTIM2_OUT, 19 PA9/MCO/USART1_TX/TIM1_CH2/SPI2_MISO/I2C1_SCL, 20 PC6/TIM3_CH1/TIM2_CH3, 21 PA10/SPI2_MOSI/USART1_RX/TIM1_CH3/TIM17_BK/I2C1_SDA, 22 PA11/PA9/SPI1_MISO/I2S1_MCK/USART1_CTS/TIM1_CH4/TIM1_BK2/I2C2_SCL/ADC_IN15, 23 PA12/PA10/SPI1_MOSI/I2S1_SD/USART1_RTS_DE_CK/TIM1_ETR/I2S_CKIN/I2C2_SDA/ADC_IN16, 24 PA13/SWDIO/IR_OUT/ADC_IN17, 25 PA14/BOOT0/SWCLK/USART2_TX/ADC_IN18, 26 PA15/SPI1_NSS/I2S1_WS/USART2_RX/TIM2_CH1_ETR, 27 PB3/SPI1_SCK/I2S1_CK/TIM1_CH2/TIM2_CH2/USART1_RTS_DE_CK, 28 PB4/SPI1_MISO/I2S1_MCK/TIM3_CH1/USART1_CTS/TIM17_BK, 29 PB5/SPI1_MOSI/I2S1_SD/TIM3_CH2/TIM16_BK/LPTIM1_IN1/I2C1_SMBA/WKUP6, 30 PB6/USART1_TX/TIM1_CH3/TIM16_CH1N/SPI2_MISO/LPTIM1_ETR/I2C1_SCL, 31 PB7/USART1_RX/SPI2_MOSI/TIM17_CH1N/LPTIM1_IN2/I2C1_SDA/ADC_IN11/PVD_IN, 32 PB8/SPI2_SCK/TIM16_CH1/I2C1_SCL

## STM32G071C8T6
designator IC?
MAINSTREAM ARM CORTEX-M0+ MCU WI; Manufacturer: STMicroelectronics; Connectivity: HDMI-CEC, I²C, IrDA, LINbus, SPI, UART/USART, USB; Core Processor: ARM® Cortex®-M0+; Core Size: 32-Bit; Data Converters: A/D 17x12b; D/A 2x12b; Number of I/O: 44; Oscillator Type: Internal; Peripherals: Brown-out Detect/Reset, DMA, I²S, POR, PWM, WDT; Program Memory Size: 64KB (64K x 8); Program Memory Type: FLASH; RAM Size: 36K x 8; Speed: 64MHz; Voltage - Supply (Vcc/Vdd): 1.71V ~ 3.6V; Part Number: STM32G071C8T6; ComponentLink1Description: Datasheet; ComponentLink1URL: https://www.st.com/resource/en/datasheet/stm32g071c8.pdf; ComponentLink2Description: DigiKey Link; ComponentLink2URL: http://digikey.com/product-detail/en/stmicroelectronics/STM32G071C8T6/STM32G071C8T6-ND/10326699; Device Package: 48-LQFP; LastUpdated: 8/30/2020 9:09:26 PM; Lifecycle Status: Active; Minimum Order: 1; Mounting Type: Surface Mount; Package / Case: 48-LQFP; Packaging: Tray; PartId: 221; Price: 2.71; Series: STM32G0; Supplier 1: DigiKey; Supplier Part Number 1: STM32G071C8T6-ND; Supplier Device Package: 48-LQFP (7x7)
footprint ST LQFP-48 7X7MM
pins: 1 PC13/TIM1_BKIN/TAMP_IN1/RTC_TS/RTC_OUT1/WKUP2, 2 PC14/TIM1_BKIN2/OSC32_IN, 3 PC15/OSC32_EN/OSC_EN/TIM15_BKIN/OSC32_OUT, 4 VBAT, 5 VREF+/-/VREF_OUT, 6 VDD/VDDA, 7 VSS/VSSA, 8 PF0/TIM14_CH1/OSC_IN, 9 PF1/OSC_EN/TIM15_CH1N/OSC_OUT, 10 PF2/MCO/NRST, 11 PA0/SPI2_SCK/USART2_CTS/TIM2_CH1_ETR/USART4_TX/LPTIM1_OUT/UCPD2_FRSTX/ADC_IN0, 12 PA1/SPI1_SCK/I2S1_CK/USART2_RTS_DE_CK/TIM2_CH2/USART4_RX/I2C1_SMBA/ADC_IN1, 13 PA2/SPI1_MOSI/I2S1_SD/USART2_TX/TIM2_CH3/UCPD1_FRSTX/TIM15_CH1/LPUART1_TX/ADC_IN2/LSCO, 14 PA3/SPI2_MISO/USART2_RX/TIM2_CH4/UCPD2_FRSTX/TIM15_CH2/LPUART1_RX/COMP2_INP/ADC_IN3, 15 PA4/SPI1_NSS/I2S1_WS/SPI2_MOSI/TIM14_CH1/LPTIM2_OUT/UCPD2_FRSTX/ADC_IN4/DAC_OUT1/RTC_OUT2, 16 PA5/SPI1_SCK/I2S1_CK/CEC/TIM2_CH1_ETR/USART3_TX/LPTIM2_ETR/UCPD1_FRSTX/ADC_IN5/DAC_OUT2, 17 PA6/SPI1_MISO/I2S1_MCK/TIM3_CH1/TIM1_BKIN/USART3_CTS/TIM16_CH1/LPUART1_CTS/COMP1_OUT/ADC_IN6, 18 PA7/SPI1_MOSI/I2S1_SD/TIM3_CH2/TIM1_CH1N/TIM14_CH1/TIM17_CH1/UCPD1_FRSTX/COMP2_OUT/ADC_IN7, 19 PB0/SPI1_NSS/I2S1_WS/TIM3_CH3/TIM1_CH2N/USART3_RX/LPTIM1_OUT/UCPD1_FRSTX/COMP1_OUT/ADC_IN8, 20 PB1/TIM14_CH1/TIM3_CH4/TIM1_CH3N/USART3_RTS_DE_CK/LPTIM2_IN1/LPUART1_RTS_DE/COMP1_INM/ADC_IN9, 21 PB2/SPI2_MISO/USART3_TX/LPTIM1_OUT/COMP1_INP/ADC_IN10, 22 PB10/CEC/LPUART1_RX/TIM2_CH3/USART3_TX/SPI2_SCK/I2C2_SCL/COMP1_OUT/ADC_IN11, 23 PB11/SPI2_MOSI/LPUART1_TX/TIM2_CH4/USART3_RX/I2C2_SDA/COMP2_OUT/ADC_IN15, 24 PB12/SPI2_NSS/LPUART1_RTS_DE/TIM1_BKIN/TIM15_BKIN/UCPD2_FRSTX/ADC_IN16, 25 PB13/SPI2_SCK/LPUART1_CTS/TIM1_CH1N/USART3_CTS/TIM15_CH1N/I2C2_SCL, 26 PB14/SPI2_MISO/UCPD1_FRSTX/TIM1_CH2N/USART3_RTS_DE_CK/TIM15_CH1/I2C2_SDA, 27 PB15/SPI2_MOSI/TIM1_CH3N/TIM15_CH1N/TIM15_CH2/UCPD1_CC2/RTC_REFIN, 28 PA8/MCO/SPI2_NSS/TIM1_CH1/LPTIM2_OUT/UCPD1_CC1, 29 PA9/MCO/USART1_TX/TIM1_CH2/SPI2_MISO/TIM15_BKIN/I2C1_SCL/UCPD1_DBCC1, 30 PC6/UCPD1_FRSTX/TIM3_CH1/TIM2_CH3, 31 PC7/UCPD2_FRSTX/TIM3_CH2/TIM2_CH4, 32 PA10/SPI2_MOSI/USART1_RX/TIM1_CH3/TIM17_BKIN/I2C1_SDA/UCPD1_DBCC2, 33 PA11[PA9](4)/SPI1_MISO/I2S1_MCK/USART1_CTS/TIM1_CH4/TIM1_BKIN2/I2C2_SCL/COMP1_OUT, 34 PA12[PA10](4)/SPI1_MOSI/I2S1_SD/USART1_RTS_DE_CK/TIM1_ETR/I2S_CKIN/I2C2_SDA/COMP2_OUT, 35 PA13/SWDIO/IR_OUT, 36 PA14/BOOT0/SWCLK/USART2_TX, 37 PA15/SPI1_NSS/I2S1_WS/USART2_RX/TIM2_CH1_ETR/USART4_RTS_DE_CK/USART3_RTS_DE_CK, 38 PD0/SPI2_NSS/TIM16_CH1/UCPD2_CC1, 39 PD1/SPI2_SCK/TIM17_CH1/UCPD2_DBCC1, 40 PD2/USART3_RTS_DE_CK/TIM3_ETR/TIM1_CH1N/UCPD2_CC2, 41 PD3/USART2_CTS/SPI2_MISO/TIM1_CH2N/UCPD2_DBCC2, 42 PB3/SPI1_SCK/I2S1_CK/TIM1_CH2/TIM2_CH2/USART1_RTS_DE_CK/COMP2_INM, 43 PB4/SPI1_MISO/I2S1_MCK/TIM3_CH1/USART1_CTS/TIM17_BKIN/COMP2_INP, 44 PB5/SPI1_MOSI/I2S1_SD/TIM3_CH2/TIM16_BKIN/LPTIM1_IN1/I2C1_SMBA/COMP2_OUT/WKUP6, 45 PB6/USART1_TX/TIM1_CH3/TIM16_CH1N/SPI2_MISO/LPTIM1_ETR/I2C1_SCL/COMP2_INP, 46 PB7/USART1_RX/SPI2_MOSI/TIM17_CH1N/USART4_CTS/LPTIM1_IN2/I2C1_SDA/COMP2_INM/PVD_IN, 47 PB8/CEC/SPI2_SCK/TIM16_CH1/USART3_TX/TIM15_BKIN/I2C1_SCL, 48 PB9/IR_OUT/UCPD2_FRSTX/TIM17_CH1/USART3_RX/SPI2_NSS/I2C1_SDA

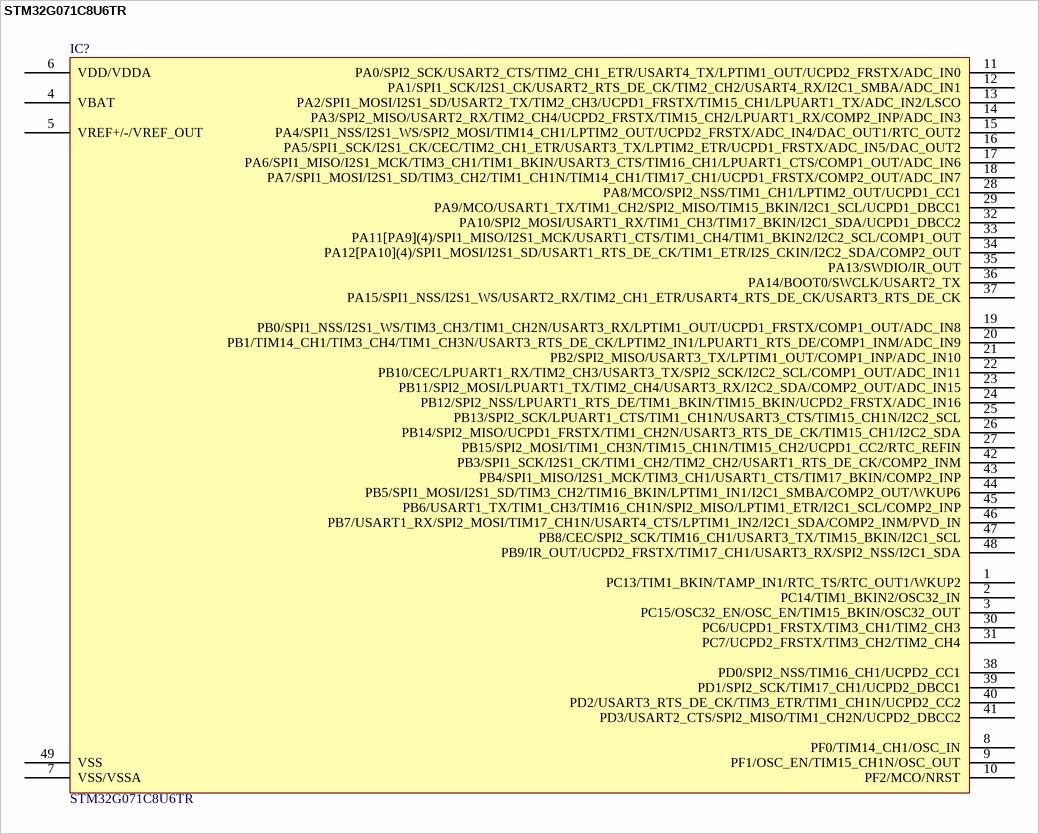
[diagram p70: symbol STM32G071C8U6TR]

## STM32G071C8U6TR
designator IC?
MAINSTREAM ARM CORTEX-M0+ MCU WI; Manufacturer: STMicroelectronics; Connectivity: HDMI-CEC, I²C, IrDA, LINbus, SPI, UART/USART, USB; Core Processor: ARM® Cortex®-M0+; Core Size: 32-Bit; Data Converters: A/D 17x12b; D/A 2x12b; Number of I/O: 44; Oscillator Type: Internal; Peripherals: Brown-out Detect/Reset, DMA, I²S, POR, PWM, WDT; Program Memory Size: 64KB (64K x 8); Program Memory Type: FLASH; RAM Size: 36K x 8; Speed: 64MHz; Voltage - Supply (Vcc/Vdd): 1.71V ~ 3.6V; Part Number: STM32G071C8U6TR; ComponentLink1Description: Datasheet; ComponentLink1URL: https://www.st.com/resource/en/datasheet/stm32g071c8.pdf; ComponentLink2Description: DigiKey Link; ComponentLink2URL: http://digikey.com/product-detail/en/stmicroelectronics/STM32G071C8U6TR/497-STM32G071C8U6CT-ND/12709400; Device Package: 48-UFQFN Exposed Pad; LastUpdated: 8/30/2020 9:09:27 PM; Lifecycle Status: Active; Minimum Order: 1; Mounting Type: Surface Mount; Operating Temperature: -40°C ~ 85°C (TA); Package / Case: 48-UFQFN Exposed Pad; Packaging: CutTape; PartId: 222; Price: 2.90; Series: STM32G0; Supplier 1: DigiKey; Supplier Part Number 1: 497-STM32G071C8U6CT-ND; Supplier Device Package: 48-UFQFPN (7x7)
footprint ST UFQFPN-48 7x7MM
pins: 1 PC13/TIM1_BKIN/TAMP_IN1/RTC_TS/RTC_OUT1/WKUP2, 2 PC14/TIM1_BKIN2/OSC32_IN, 3 PC15/OSC32_EN/OSC_EN/TIM15_BKIN/OSC32_OUT, 4 VBAT, 5 VREF+/-/VREF_OUT, 6 VDD/VDDA, 7 VSS/VSSA, 8 PF0/TIM14_CH1/OSC_IN, 9 PF1/OSC_EN/TIM15_CH1N/OSC_OUT, 10 PF2/MCO/NRST, 11 PA0/SPI2_SCK/USART2_CTS/TIM2_CH1_ETR/USART4_TX/LPTIM1_OUT/UCPD2_FRSTX/ADC_IN0, 12 PA1/SPI1_SCK/I2S1_CK/USART2_RTS_DE_CK/TIM2_CH2/USART4_RX/I2C1_SMBA/ADC_IN1, 13 PA2/SPI1_MOSI/I2S1_SD/USART2_TX/TIM2_CH3/UCPD1_FRSTX/TIM15_CH1/LPUART1_TX/ADC_IN2/LSCO, 14 PA3/SPI2_MISO/USART2_RX/TIM2_CH4/UCPD2_FRSTX/TIM15_CH2/LPUART1_RX/COMP2_INP/ADC_IN3, 15 PA4/SPI1_NSS/I2S1_WS/SPI2_MOSI/TIM14_CH1/LPTIM2_OUT/UCPD2_FRSTX/ADC_IN4/DAC_OUT1/RTC_OUT2, 16 PA5/SPI1_SCK/I2S1_CK/CEC/TIM2_CH1_ETR/USART3_TX/LPTIM2_ETR/UCPD1_FRSTX/ADC_IN5/DAC_OUT2, 17 PA6/SPI1_MISO/I2S1_MCK/TIM3_CH1/TIM1_BKIN/USART3_CTS/TIM16_CH1/LPUART1_CTS/COMP1_OUT/ADC_IN6, 18 PA7/SPI1_MOSI/I2S1_SD/TIM3_CH2/TIM1_CH1N/TIM14_CH1/TIM17_CH1/UCPD1_FRSTX/COMP2_OUT/ADC_IN7, 19 PB0/SPI1_NSS/I2S1_WS/TIM3_CH3/TIM1_CH2N/USART3_RX/LPTIM1_OUT/UCPD1_FRSTX/COMP1_OUT/ADC_IN8, 20 PB1/TIM14_CH1/TIM3_CH4/TIM1_CH3N/USART3_RTS_DE_CK/LPTIM2_IN1/LPUART1_RTS_DE/COMP1_INM/ADC_IN9, 21 PB2/SPI2_MISO/USART3_TX/LPTIM1_OUT/COMP1_INP/ADC_IN10, 22 PB10/CEC/LPUART1_RX/TIM2_CH3/USART3_TX/SPI2_SCK/I2C2_SCL/COMP1_OUT/ADC_IN11, 23 PB11/SPI2_MOSI/LPUART1_TX/TIM2_CH4/USART3_RX/I2C2_SDA/COMP2_OUT/ADC_IN15, 24 PB12/SPI2_NSS/LPUART1_RTS_DE/TIM1_BKIN/TIM15_BKIN/UCPD2_FRSTX/ADC_IN16, 25 PB13/SPI2_SCK/LPUART1_CTS/TIM1_CH1N/USART3_CTS/TIM15_CH1N/I2C2_SCL, 26 PB14/SPI2_MISO/UCPD1_FRSTX/TIM1_CH2N/USART3_RTS_DE_CK/TIM15_CH1/I2C2_SDA, 27 PB15/SPI2_MOSI/TIM1_CH3N/TIM15_CH1N/TIM15_CH2/UCPD1_CC2/RTC_REFIN, 28 PA8/MCO/SPI2_NSS/TIM1_CH1/LPTIM2_OUT/UCPD1_CC1, 29 PA9/MCO/USART1_TX/TIM1_CH2/SPI2_MISO/TIM15_BKIN/I2C1_SCL/UCPD1_DBCC1, 30 PC6/UCPD1_FRSTX/TIM3_CH1/TIM2_CH3, 31 PC7/UCPD2_FRSTX/TIM3_CH2/TIM2_CH4, 32 PA10/SPI2_MOSI/USART1_RX/TIM1_CH3/TIM17_BKIN/I2C1_SDA/UCPD1_DBCC2, 33 PA11[PA9](4)/SPI1_MISO/I2S1_MCK/USART1_CTS/TIM1_CH4/TIM1_BKIN2/I2C2_SCL/COMP1_OUT, 34 PA12[PA10](4)/SPI1_MOSI/I2S1_SD/USART1_RTS_DE_CK/TIM1_ETR/I2S_CKIN/I2C2_SDA/COMP2_OUT, 35 PA13/SWDIO/IR_OUT, 36 PA14/BOOT0/SWCLK/USART2_TX, 37 PA15/SPI1_NSS/I2S1_WS/USART2_RX/TIM2_CH1_ETR/USART4_RTS_DE_CK/USART3_RTS_DE_CK, 38 PD0/SPI2_NSS/TIM16_CH1/UCPD2_CC1, 39 PD1/SPI2_SCK/TIM17_CH1/UCPD2_DBCC1, 40 PD2/USART3_RTS_DE_CK/TIM3_ETR/TIM1_CH1N/UCPD2_CC2, 41 PD3/USART2_CTS/SPI2_MISO/TIM1_CH2N/UCPD2_DBCC2, 42 PB3/SPI1_SCK/I2S1_CK/TIM1_CH2/TIM2_CH2/USART1_RTS_DE_CK/COMP2_INM, 43 PB4/SPI1_MISO/I2S1_MCK/TIM3_CH1/USART1_CTS/TIM17_BKIN/COMP2_INP, 44 PB5/SPI1_MOSI/I2S1_SD/TIM3_CH2/TIM16_BKIN/LPTIM1_IN1/I2C1_SMBA/COMP2_OUT/WKUP6, 45 PB6/USART1_TX/TIM1_CH3/TIM16_CH1N/SPI2_MISO/LPTIM1_ETR/I2C1_SCL/COMP2_INP, 46 PB7/USART1_RX/SPI2_MOSI/TIM17_CH1N/USART4_CTS/LPTIM1_IN2/I2C1_SDA/COMP2_INM/PVD_IN, 47 PB8/CEC/SPI2_SCK/TIM16_CH1/USART3_TX/TIM15_BKIN/I2C1_SCL, 48 PB9/IR_OUT/UCPD2_FRSTX/TIM17_CH1/USART3_RX/SPI2_NSS/I2C1_SDA, 49 VSS

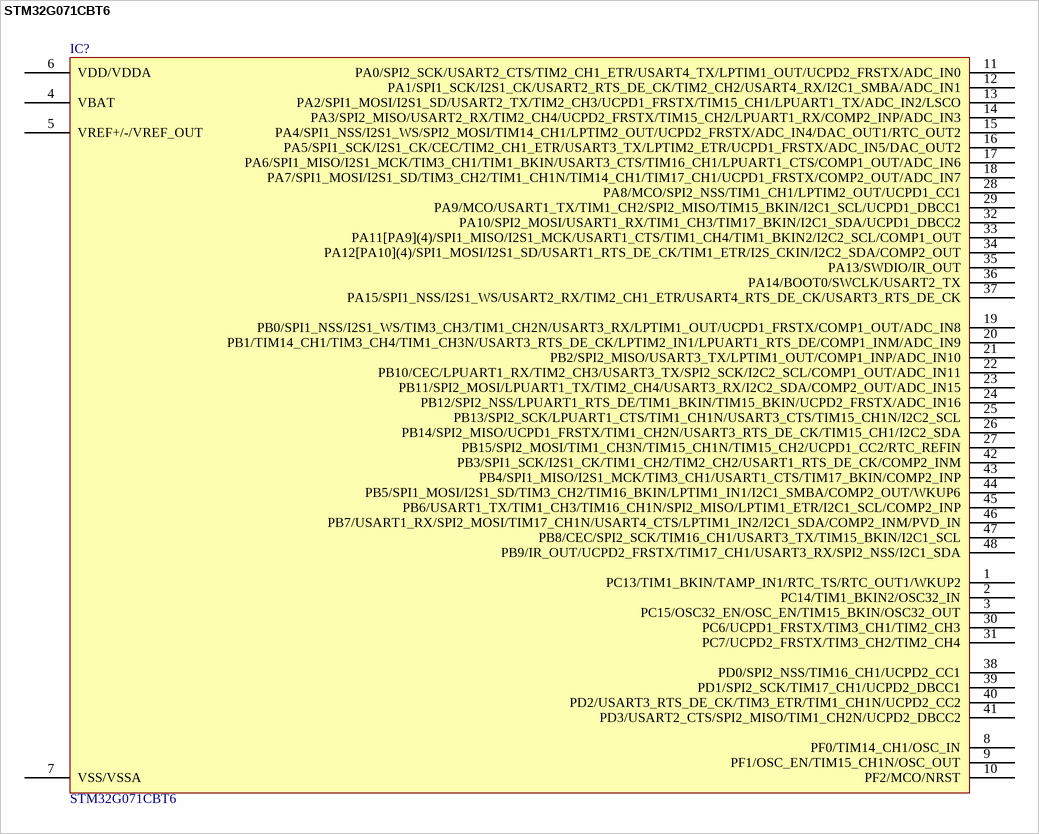
[diagram p71: symbol STM32G071CBT6]

## STM32G071CBT6
designator IC?
IC MCU 32BIT 128KB FLASH 48LQFP; Manufacturer: STMicroelectronics; Connectivity: HDMI-CEC, I²C, IrDA, LINbus, SPI, UART/USART, USB; Core Processor: ARM® Cortex®-M0+; Core Size: 32-Bit; Data Converters: A/D 17x12b; D/A 2x12b; Number of I/O: 44; Oscillator Type: Internal; Peripherals: Brown-out Detect/Reset, DMA, I²S, POR, PWM, WDT; Program Memory Size: 128KB (128K x 8); RAM Size: 36K x 8; Speed: 64MHz; Voltage - Supply (Vcc/Vdd): 1.71V ~ 3.6V; Part Number: STM32G071CBT6; ComponentLink1Description: Datasheet; ComponentLink1URL: https://www.st.com/resource/en/datasheet/stm32g071cb.pdf; ComponentLink2Description: DigiKey Link; ComponentLink2URL: http://digikey.com/product-detail/en/stmicroelectronics/STM32G071CBT6/497-18342-ND/9749147; LastUpdated: 9/2/2020 1:31:00 AM; Lifecycle Status: Active; Minimum Order: 1; Mounting Type: Surface Mount; Operating Temperature: -40°C ~ 85°C (TA); Package / Case: 48-LQFP; Packaging: Tray; PartId: 210; Part Status: Active; Price: 2.79; Program Memory Type: FLASH; Series: STM32G0; Supplier 1: DigiKey; Supplier Part Number 1: 497-18342-ND; Supplier Device Package: 48-LQFP (7x7)
footprint ST LQFP-48 7X7MM
pins: 1 PC13/TIM1_BKIN/TAMP_IN1/RTC_TS/RTC_OUT1/WKUP2, 2 PC14/TIM1_BKIN2/OSC32_IN, 3 PC15/OSC32_EN/OSC_EN/TIM15_BKIN/OSC32_OUT, 4 VBAT, 5 VREF+/-/VREF_OUT, 6 VDD/VDDA, 7 VSS/VSSA, 8 PF0/TIM14_CH1/OSC_IN, 9 PF1/OSC_EN/TIM15_CH1N/OSC_OUT, 10 PF2/MCO/NRST, 11 PA0/SPI2_SCK/USART2_CTS/TIM2_CH1_ETR/USART4_TX/LPTIM1_OUT/UCPD2_FRSTX/ADC_IN0, 12 PA1/SPI1_SCK/I2S1_CK/USART2_RTS_DE_CK/TIM2_CH2/USART4_RX/I2C1_SMBA/ADC_IN1, 13 PA2/SPI1_MOSI/I2S1_SD/USART2_TX/TIM2_CH3/UCPD1_FRSTX/TIM15_CH1/LPUART1_TX/ADC_IN2/LSCO, 14 PA3/SPI2_MISO/USART2_RX/TIM2_CH4/UCPD2_FRSTX/TIM15_CH2/LPUART1_RX/COMP2_INP/ADC_IN3, 15 PA4/SPI1_NSS/I2S1_WS/SPI2_MOSI/TIM14_CH1/LPTIM2_OUT/UCPD2_FRSTX/ADC_IN4/DAC_OUT1/RTC_OUT2, 16 PA5/SPI1_SCK/I2S1_CK/CEC/TIM2_CH1_ETR/USART3_TX/LPTIM2_ETR/UCPD1_FRSTX/ADC_IN5/DAC_OUT2, 17 PA6/SPI1_MISO/I2S1_MCK/TIM3_CH1/TIM1_BKIN/USART3_CTS/TIM16_CH1/LPUART1_CTS/COMP1_OUT/ADC_IN6, 18 PA7/SPI1_MOSI/I2S1_SD/TIM3_CH2/TIM1_CH1N/TIM14_CH1/TIM17_CH1/UCPD1_FRSTX/COMP2_OUT/ADC_IN7, 19 PB0/SPI1_NSS/I2S1_WS/TIM3_CH3/TIM1_CH2N/USART3_RX/LPTIM1_OUT/UCPD1_FRSTX/COMP1_OUT/ADC_IN8, 20 PB1/TIM14_CH1/TIM3_CH4/TIM1_CH3N/USART3_RTS_DE_CK/LPTIM2_IN1/LPUART1_RTS_DE/COMP1_INM/ADC_IN9, 21 PB2/SPI2_MISO/USART3_TX/LPTIM1_OUT/COMP1_INP/ADC_IN10, 22 PB10/CEC/LPUART1_RX/TIM2_CH3/USART3_TX/SPI2_SCK/I2C2_SCL/COMP1_OUT/ADC_IN11, 23 PB11/SPI2_MOSI/LPUART1_TX/TIM2_CH4/USART3_RX/I2C2_SDA/COMP2_OUT/ADC_IN15, 24 PB12/SPI2_NSS/LPUART1_RTS_DE/TIM1_BKIN/TIM15_BKIN/UCPD2_FRSTX/ADC_IN16, 25 PB13/SPI2_SCK/LPUART1_CTS/TIM1_CH1N/USART3_CTS/TIM15_CH1N/I2C2_SCL, 26 PB14/SPI2_MISO/UCPD1_FRSTX/TIM1_CH2N/USART3_RTS_DE_CK/TIM15_CH1/I2C2_SDA, 27 PB15/SPI2_MOSI/TIM1_CH3N/TIM15_CH1N/TIM15_CH2/UCPD1_CC2/RTC_REFIN, 28 PA8/MCO/SPI2_NSS/TIM1_CH1/LPTIM2_OUT/UCPD1_CC1, 29 PA9/MCO/USART1_TX/TIM1_CH2/SPI2_MISO/TIM15_BKIN/I2C1_SCL/UCPD1_DBCC1, 30 PC6/UCPD1_FRSTX/TIM3_CH1/TIM2_CH3, 31 PC7/UCPD2_FRSTX/TIM3_CH2/TIM2_CH4, 32 PA10/SPI2_MOSI/USART1_RX/TIM1_CH3/TIM17_BKIN/I2C1_SDA/UCPD1_DBCC2, 33 PA11[PA9](4)/SPI1_MISO/I2S1_MCK/USART1_CTS/TIM1_CH4/TIM1_BKIN2/I2C2_SCL/COMP1_OUT, 34 PA12[PA10](4)/SPI1_MOSI/I2S1_SD/USART1_RTS_DE_CK/TIM1_ETR/I2S_CKIN/I2C2_SDA/COMP2_OUT, 35 PA13/SWDIO/IR_OUT, 36 PA14/BOOT0/SWCLK/USART2_TX, 37 PA15/SPI1_NSS/I2S1_WS/USART2_RX/TIM2_CH1_ETR/USART4_RTS_DE_CK/USART3_RTS_DE_CK, 38 PD0/SPI2_NSS/TIM16_CH1/UCPD2_CC1, 39 PD1/SPI2_SCK/TIM17_CH1/UCPD2_DBCC1, 40 PD2/USART3_RTS_DE_CK/TIM3_ETR/TIM1_CH1N/UCPD2_CC2, 41 PD3/USART2_CTS/SPI2_MISO/TIM1_CH2N/UCPD2_DBCC2, 42 PB3/SPI1_SCK/I2S1_CK/TIM1_CH2/TIM2_CH2/USART1_RTS_DE_CK/COMP2_INM, 43 PB4/SPI1_MISO/I2S1_MCK/TIM3_CH1/USART1_CTS/TIM17_BKIN/COMP2_INP, 44 PB5/SPI1_MOSI/I2S1_SD/TIM3_CH2/TIM16_BKIN/LPTIM1_IN1/I2C1_SMBA/COMP2_OUT/WKUP6, 45 PB6/USART1_TX/TIM1_CH3/TIM16_CH1N/SPI2_MISO/LPTIM1_ETR/I2C1_SCL/COMP2_INP, 46 PB7/USART1_RX/SPI2_MOSI/TIM17_CH1N/USART4_CTS/LPTIM1_IN2/I2C1_SDA/COMP2_INM/PVD_IN, 47 PB8/CEC/SPI2_SCK/TIM16_CH1/USART3_TX/TIM15_BKIN/I2C1_SCL, 48 PB9/IR_OUT/UCPD2_FRSTX/TIM17_CH1/USART3_RX/SPI2_NSS/I2C1_SDA

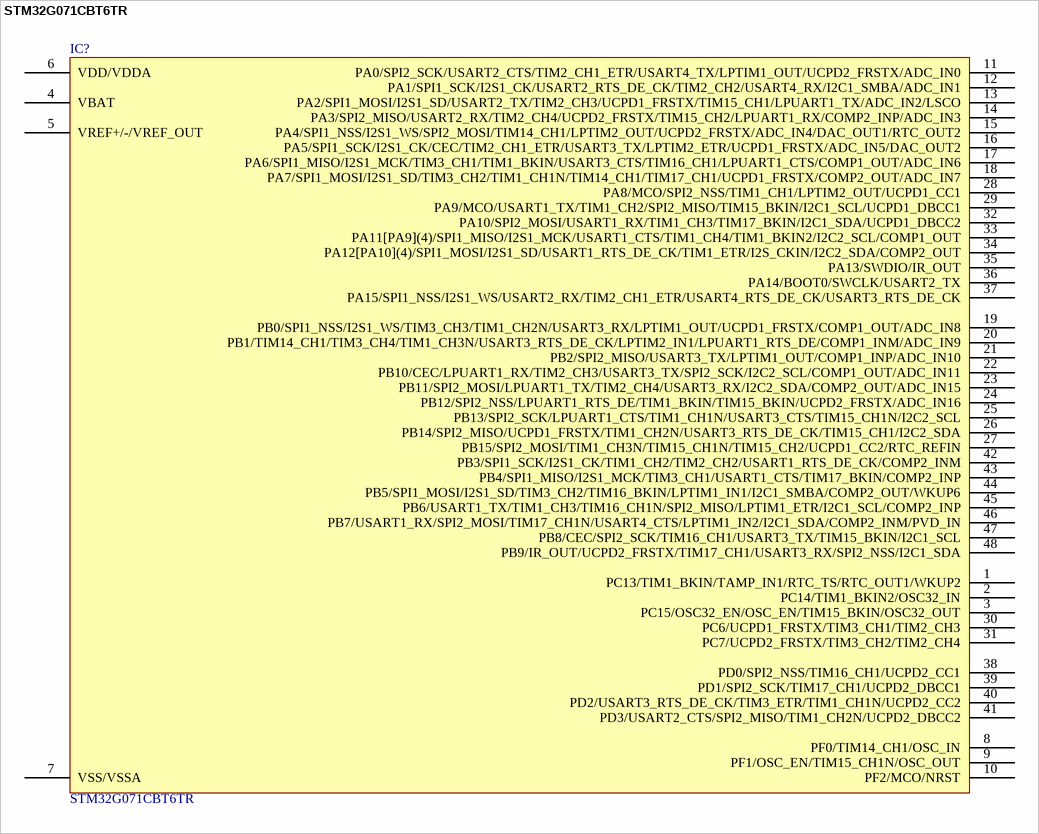
[diagram p72: symbol STM32G071CBT6TR]

## STM32G071CBT6TR
designator IC?
MAINSTREAM ARM CORTEX-M0+ MCU WI; Manufacturer: STMicroelectronics; Connectivity: HDMI-CEC, I²C, IrDA, LINbus, SPI, UART/USART, USB; Core Processor: ARM® Cortex®-M0+; Core Size: 32-Bit; Data Converters: A/D 17x12b; D/A 2x12b; Number of I/O: 44; Oscillator Type: Internal; Peripherals: Brown-out Detect/Reset, DMA, I²S, POR, PWM, WDT; Program Memory Size: 128KB (128K x 8); Program Memory Type: FLASH; RAM Size: 36K x 8; Speed: 64MHz; Voltage - Supply (Vcc/Vdd): 1.71V ~ 3.6V; Part Number: STM32G071CBT6TR; ComponentLink1Description: Datasheet; ComponentLink1URL: https://www.st.com/resource/en/datasheet/stm32g071c8.pdf; ComponentLink2Description: DigiKey Link; ComponentLink2URL: http://digikey.com/product-detail/en/stmicroelectronics/STM32G071CBT6TR/497-STM32G071CBT6CT-ND/11489365; LastUpdated: 9/2/2020 1:31:00 AM; Lifecycle Status: Active; Minimum Order: 1; Mounting Type: Surface Mount; Operating Temperature: -40°C ~ 85°C (TA); Package / Case: 48-LQFP; Packaging: TapeAndReel; PartId: 218; Part Status: Active; Price: 1.37; Series: STM32G0; Supplier 1: DigiKey; Supplier Part Number 1: 497-STM32G071CBT6CT-ND; Supplier Device Package: 48-LQFP (7x7)
footprint ST LQFP-48 7X7MM
pins: 1 PC13/TIM1_BKIN/TAMP_IN1/RTC_TS/RTC_OUT1/WKUP2, 2 PC14/TIM1_BKIN2/OSC32_IN, 3 PC15/OSC32_EN/OSC_EN/TIM15_BKIN/OSC32_OUT, 4 VBAT, 5 VREF+/-/VREF_OUT, 6 VDD/VDDA, 7 VSS/VSSA, 8 PF0/TIM14_CH1/OSC_IN, 9 PF1/OSC_EN/TIM15_CH1N/OSC_OUT, 10 PF2/MCO/NRST, 11 PA0/SPI2_SCK/USART2_CTS/TIM2_CH1_ETR/USART4_TX/LPTIM1_OUT/UCPD2_FRSTX/ADC_IN0, 12 PA1/SPI1_SCK/I2S1_CK/USART2_RTS_DE_CK/TIM2_CH2/USART4_RX/I2C1_SMBA/ADC_IN1, 13 PA2/SPI1_MOSI/I2S1_SD/USART2_TX/TIM2_CH3/UCPD1_FRSTX/TIM15_CH1/LPUART1_TX/ADC_IN2/LSCO, 14 PA3/SPI2_MISO/USART2_RX/TIM2_CH4/UCPD2_FRSTX/TIM15_CH2/LPUART1_RX/COMP2_INP/ADC_IN3, 15 PA4/SPI1_NSS/I2S1_WS/SPI2_MOSI/TIM14_CH1/LPTIM2_OUT/UCPD2_FRSTX/ADC_IN4/DAC_OUT1/RTC_OUT2, 16 PA5/SPI1_SCK/I2S1_CK/CEC/TIM2_CH1_ETR/USART3_TX/LPTIM2_ETR/UCPD1_FRSTX/ADC_IN5/DAC_OUT2, 17 PA6/SPI1_MISO/I2S1_MCK/TIM3_CH1/TIM1_BKIN/USART3_CTS/TIM16_CH1/LPUART1_CTS/COMP1_OUT/ADC_IN6, 18 PA7/SPI1_MOSI/I2S1_SD/TIM3_CH2/TIM1_CH1N/TIM14_CH1/TIM17_CH1/UCPD1_FRSTX/COMP2_OUT/ADC_IN7, 19 PB0/SPI1_NSS/I2S1_WS/TIM3_CH3/TIM1_CH2N/USART3_RX/LPTIM1_OUT/UCPD1_FRSTX/COMP1_OUT/ADC_IN8, 20 PB1/TIM14_CH1/TIM3_CH4/TIM1_CH3N/USART3_RTS_DE_CK/LPTIM2_IN1/LPUART1_RTS_DE/COMP1_INM/ADC_IN9, 21 PB2/SPI2_MISO/USART3_TX/LPTIM1_OUT/COMP1_INP/ADC_IN10, 22 PB10/CEC/LPUART1_RX/TIM2_CH3/USART3_TX/SPI2_SCK/I2C2_SCL/COMP1_OUT/ADC_IN11, 23 PB11/SPI2_MOSI/LPUART1_TX/TIM2_CH4/USART3_RX/I2C2_SDA/COMP2_OUT/ADC_IN15, 24 PB12/SPI2_NSS/LPUART1_RTS_DE/TIM1_BKIN/TIM15_BKIN/UCPD2_FRSTX/ADC_IN16, 25 PB13/SPI2_SCK/LPUART1_CTS/TIM1_CH1N/USART3_CTS/TIM15_CH1N/I2C2_SCL, 26 PB14/SPI2_MISO/UCPD1_FRSTX/TIM1_CH2N/USART3_RTS_DE_CK/TIM15_CH1/I2C2_SDA, 27 PB15/SPI2_MOSI/TIM1_CH3N/TIM15_CH1N/TIM15_CH2/UCPD1_CC2/RTC_REFIN, 28 PA8/MCO/SPI2_NSS/TIM1_CH1/LPTIM2_OUT/UCPD1_CC1, 29 PA9/MCO/USART1_TX/TIM1_CH2/SPI2_MISO/TIM15_BKIN/I2C1_SCL/UCPD1_DBCC1, 30 PC6/UCPD1_FRSTX/TIM3_CH1/TIM2_CH3, 31 PC7/UCPD2_FRSTX/TIM3_CH2/TIM2_CH4, 32 PA10/SPI2_MOSI/USART1_RX/TIM1_CH3/TIM17_BKIN/I2C1_SDA/UCPD1_DBCC2, 33 PA11[PA9](4)/SPI1_MISO/I2S1_MCK/USART1_CTS/TIM1_CH4/TIM1_BKIN2/I2C2_SCL/COMP1_OUT, 34 PA12[PA10](4)/SPI1_MOSI/I2S1_SD/USART1_RTS_DE_CK/TIM1_ETR/I2S_CKIN/I2C2_SDA/COMP2_OUT, 35 PA13/SWDIO/IR_OUT, 36 PA14/BOOT0/SWCLK/USART2_TX, 37 PA15/SPI1_NSS/I2S1_WS/USART2_RX/TIM2_CH1_ETR/USART4_RTS_DE_CK/USART3_RTS_DE_CK, 38 PD0/SPI2_NSS/TIM16_CH1/UCPD2_CC1, 39 PD1/SPI2_SCK/TIM17_CH1/UCPD2_DBCC1, 40 PD2/USART3_RTS_DE_CK/TIM3_ETR/TIM1_CH1N/UCPD2_CC2, 41 PD3/USART2_CTS/SPI2_MISO/TIM1_CH2N/UCPD2_DBCC2, 42 PB3/SPI1_SCK/I2S1_CK/TIM1_CH2/TIM2_CH2/USART1_RTS_DE_CK/COMP2_INM, 43 PB4/SPI1_MISO/I2S1_MCK/TIM3_CH1/USART1_CTS/TIM17_BKIN/COMP2_INP, 44 PB5/SPI1_MOSI/I2S1_SD/TIM3_CH2/TIM16_BKIN/LPTIM1_IN1/I2C1_SMBA/COMP2_OUT/WKUP6, 45 PB6/USART1_TX/TIM1_CH3/TIM16_CH1N/SPI2_MISO/LPTIM1_ETR/I2C1_SCL/COMP2_INP, 46 PB7/USART1_RX/SPI2_MOSI/TIM17_CH1N/USART4_CTS/LPTIM1_IN2/I2C1_SDA/COMP2_INM/PVD_IN, 47 PB8/CEC/SPI2_SCK/TIM16_CH1/USART3_TX/TIM15_BKIN/I2C1_SCL, 48 PB9/IR_OUT/UCPD2_FRSTX/TIM17_CH1/USART3_RX/SPI2_NSS/I2C1_SDA

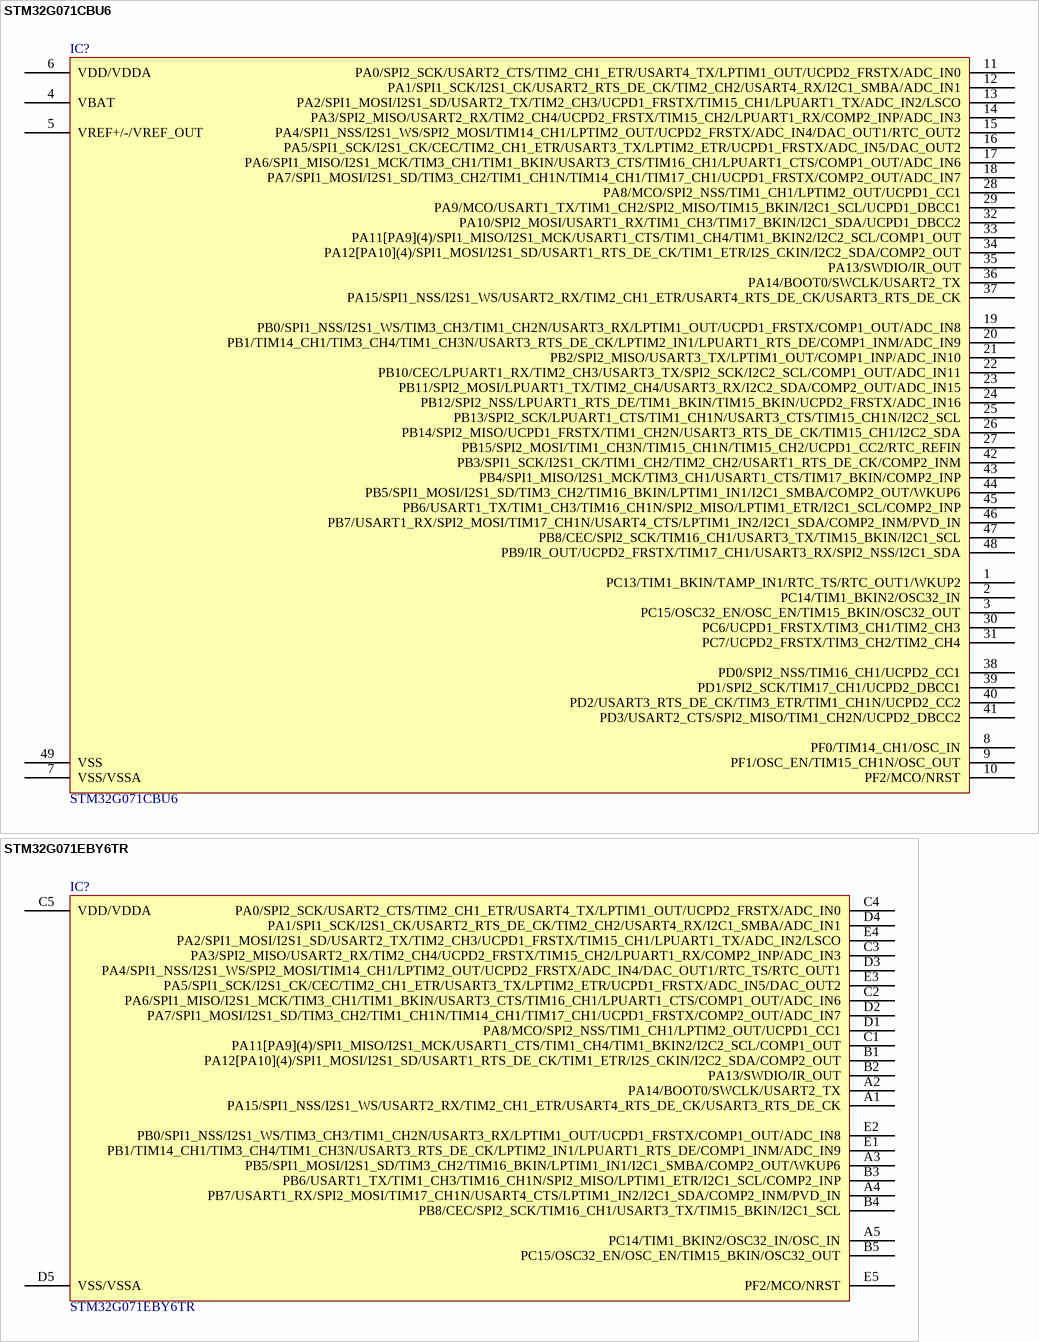
[diagram p73: symbols STM32G071CBU6 to STM32G071EBY6TR]